# Altium schematic symbol library MCU_NXP_S08.SchLib: 189 symbols (part 2 of 4)
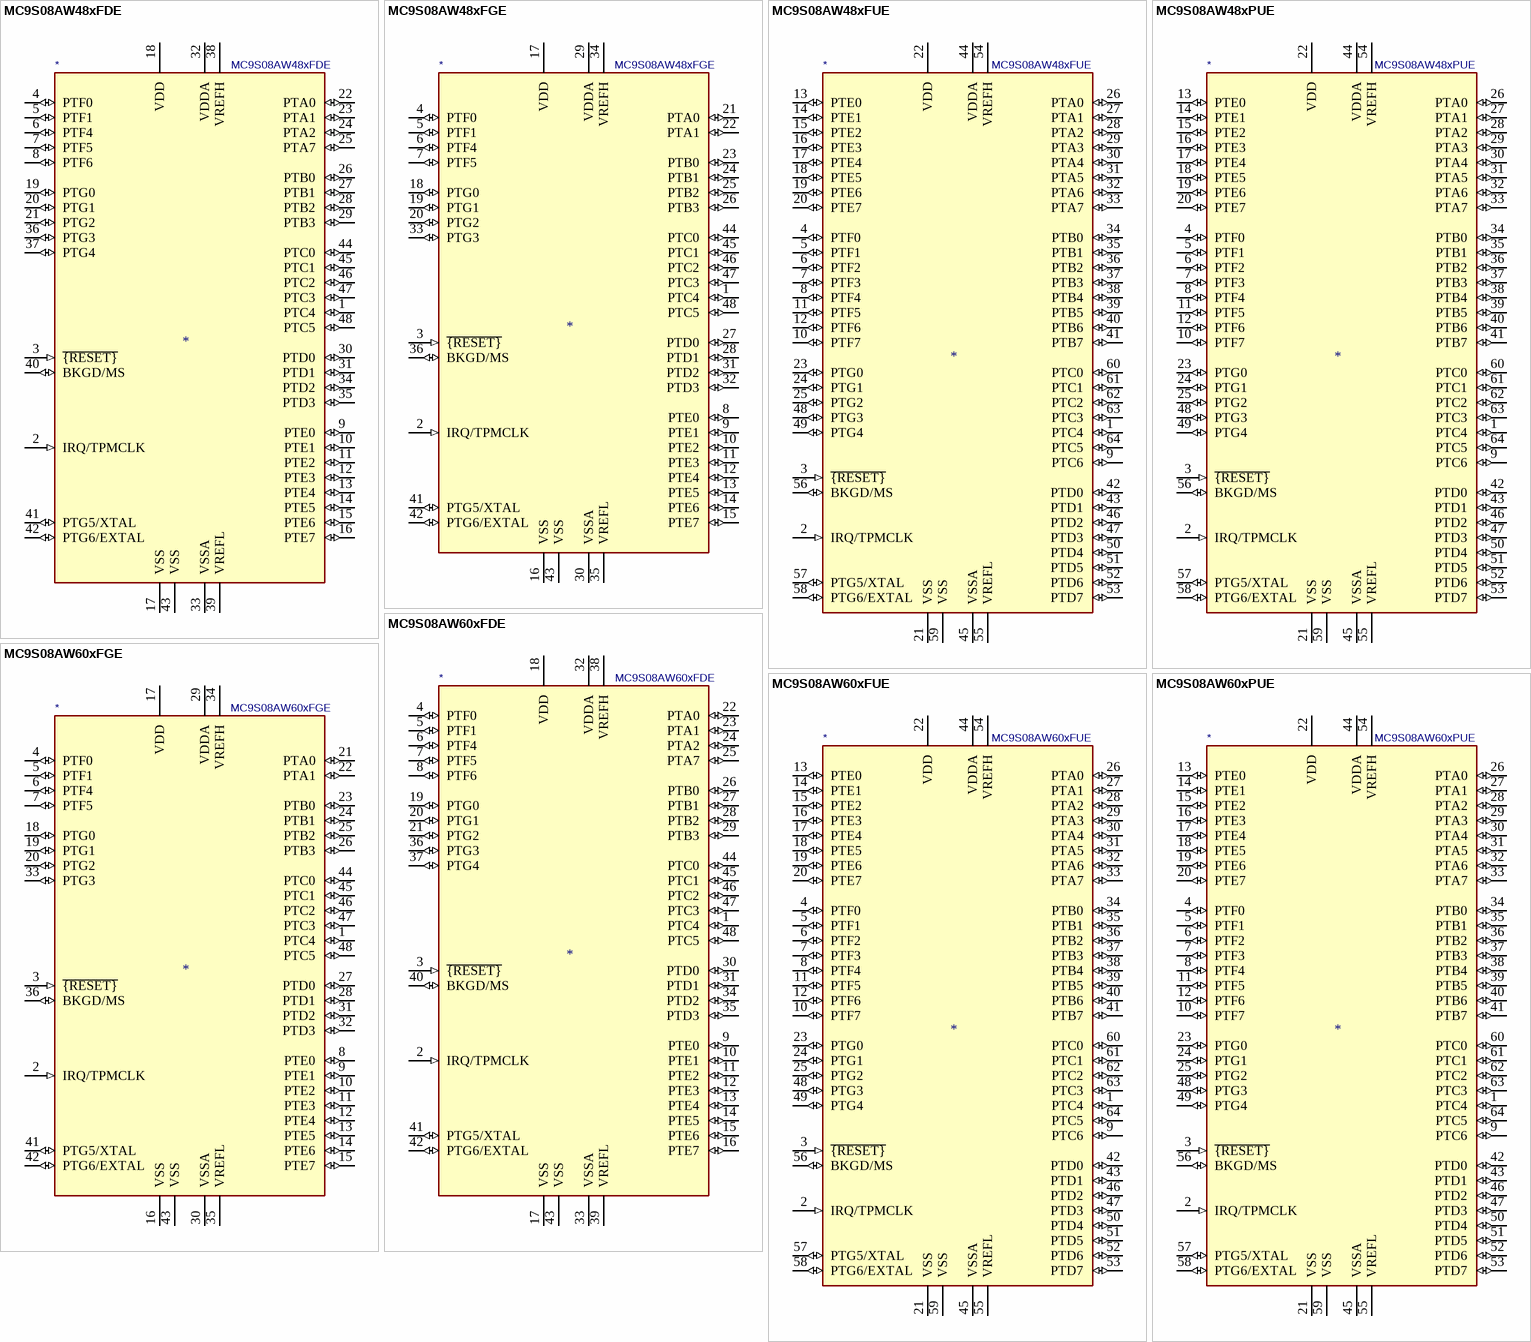
[diagram p20: symbols MC9S08AW48xFDE to MC9S08AW60xPUE]

## MC9S08AW48xFUE
designator *  value MC9S08AW48xFUE
ki_keywords: NXP S08 Microcontroller; ki_description: 8-bit General Purpose Microcontroller, S08 core, 48kB Flash, 2kB RAM, LQFP-64; ki_fp_filters: LQFP*14x14mm*P0.8mm*; Footprint: Package_QFP:LQFP-64_14x14mm_P0.8mm; Supplier: http://cache.nxp.com/files/microcontrollers/doc/data_sheet/MC9S08AW60.pdf
footprint LQFP-64_14x14mm_P0.8mm
pins: 1 PTC4 (io), 2 IRQ/TPMCLK (in), 3 ~{{RESET}} (in), 4 PTF0 (io), 5 PTF1 (io), 6 PTF2 (io), 7 PTF3 (io), 8 PTF4 (io), 9 PTC6 (io), 10 PTF7 (io), 11 PTF5 (io), 12 PTF6 (io), 13 PTE0 (io), 14 PTE1 (io), 15 PTE2 (io), 16 PTE3 (io), 17 PTE4 (io), 18 PTE5 (io), 19 PTE6 (io), 20 PTE7 (io), 21 VSS (power), 22 VDD (power), 23 PTG0 (io), 24 PTG1 (io), 25 PTG2 (io), 26 PTA0 (io), 27 PTA1 (io), 28 PTA2 (io), 29 PTA3 (io), 30 PTA4 (io), 31 PTA5 (io), 32 PTA6 (io), 33 PTA7 (io), 34 PTB0 (io), 35 PTB1 (io), 36 PTB2 (io), 37 PTB3 (io), 38 PTB4 (io), 39 PTB5 (io), 40 PTB6 (io), 41 PTB7 (io), 42 PTD0 (io), 43 PTD1 (io), 44 VDDA (power), 45 VSSA (power), 46 PTD2 (io), 47 PTD3 (io), 48 PTG3 (io), 49 PTG4 (io), 50 PTD4 (io), 51 PTD5 (io), 52 PTD6 (io), 53 PTD7 (io), 54 VREFH (power), 55 VREFL (power), 56 BKGD/MS (io), 57 PTG5/XTAL (io), 58 PTG6/EXTAL (io), 59 VSS (power), 60 PTC0 (io), 61 PTC1 (io), 62 PTC2 (io), 63 PTC3 (io), 64 PTC5 (io)

## MC9S08AW48xPUE
designator *  value MC9S08AW48xPUE
ki_keywords: NXP S08 Microcontroller; ki_description: 8-bit General Purpose Microcontroller, S08 core, 48kB Flash, 2kB RAM, LQFP-64; ki_fp_filters: LQFP*10x10mm*P0.5mm*; Footprint: Package_QFP:LQFP-64_10x10mm_P0.5mm; Supplier: http://cache.nxp.com/files/microcontrollers/doc/data_sheet/MC9S08AW60.pdf
footprint LQFP-64_10x10mm_P0.5mm
pins: 1 PTC4 (io), 2 IRQ/TPMCLK (in), 3 ~{{RESET}} (in), 4 PTF0 (io), 5 PTF1 (io), 6 PTF2 (io), 7 PTF3 (io), 8 PTF4 (io), 9 PTC6 (io), 10 PTF7 (io), 11 PTF5 (io), 12 PTF6 (io), 13 PTE0 (io), 14 PTE1 (io), 15 PTE2 (io), 16 PTE3 (io), 17 PTE4 (io), 18 PTE5 (io), 19 PTE6 (io), 20 PTE7 (io), 21 VSS (power), 22 VDD (power), 23 PTG0 (io), 24 PTG1 (io), 25 PTG2 (io), 26 PTA0 (io), 27 PTA1 (io), 28 PTA2 (io), 29 PTA3 (io), 30 PTA4 (io), 31 PTA5 (io), 32 PTA6 (io), 33 PTA7 (io), 34 PTB0 (io), 35 PTB1 (io), 36 PTB2 (io), 37 PTB3 (io), 38 PTB4 (io), 39 PTB5 (io), 40 PTB6 (io), 41 PTB7 (io), 42 PTD0 (io), 43 PTD1 (io), 44 VDDA (power), 45 VSSA (power), 46 PTD2 (io), 47 PTD3 (io), 48 PTG3 (io), 49 PTG4 (io), 50 PTD4 (io), 51 PTD5 (io), 52 PTD6 (io), 53 PTD7 (io), 54 VREFH (power), 55 VREFL (power), 56 BKGD/MS (io), 57 PTG5/XTAL (io), 58 PTG6/EXTAL (io), 59 VSS (power), 60 PTC0 (io), 61 PTC1 (io), 62 PTC2 (io), 63 PTC3 (io), 64 PTC5 (io)

## MC9S08AW60xFDE
designator *  value MC9S08AW60xFDE
ki_keywords: NXP S08 Microcontroller; ki_description: 8-bit General Purpose Microcontroller, S08 core, 60kB Flash, 2kB RAM, QFN-48; ki_fp_filters: QFN*7x7mm*P0.5mm*; Footprint: Package_DFN_QFN:QFN-48-1EP_7x7mm_P0.5mm_EP5.15x5.15mm; Supplier: http://cache.nxp.com/files/microcontrollers/doc/data_sheet/MC9S08AW60.pdf
footprint QFN-48-1EP_7x7mm_P0.5mm_EP5.15x5.15mm
pins: 1 PTC4 (io), 2 IRQ/TPMCLK (in), 3 ~{{RESET}} (in), 4 PTF0 (io), 5 PTF1 (io), 6 PTF4 (io), 7 PTF5 (io), 8 PTF6 (io), 9 PTE0 (io), 10 PTE1 (io), 11 PTE2 (io), 12 PTE3 (io), 13 PTE4 (io), 14 PTE5 (io), 15 PTE6 (io), 16 PTE7 (io), 17 VSS (power), 18 VDD (power), 19 PTG0 (io), 20 PTG1 (io), 21 PTG2 (io), 22 PTA0 (io), 23 PTA1 (io), 24 PTA2 (io), 25 PTA7 (io), 26 PTB0 (io), 27 PTB1 (io), 28 PTB2 (io), 29 PTB3 (io), 30 PTD0 (io), 31 PTD1 (io), 32 VDDA (power), 33 VSSA (power), 34 PTD2 (io), 35 PTD3 (io), 36 PTG3 (io), 37 PTG4 (io), 38 VREFH (power), 39 VREFL (power), 40 BKGD/MS (io), 41 PTG5/XTAL (io), 42 PTG6/EXTAL (io), 43 VSS (power), 44 PTC0 (io), 45 PTC1 (io), 46 PTC2 (io), 47 PTC3 (io), 48 PTC5 (io)

## MC9S08AW60xFGE
designator *  value MC9S08AW60xFGE
ki_keywords: NXP S08 Microcontroller; ki_description: 8-bit General Purpose Microcontroller, S08 core, 60kB Flash, 2kB RAM, LQFP-44; ki_fp_filters: LQFP*10x10mm*P0.8mm*; Footprint: Package_QFP:LQFP-44_10x10mm_P0.8mm; Supplier: http://cache.nxp.com/files/microcontrollers/doc/data_sheet/MC9S08AW60.pdf
footprint LQFP-44_10x10mm_P0.8mm
pins: 1 PTC4 (io), 2 IRQ/TPMCLK (in), 3 ~{{RESET}} (in), 4 PTF0 (io), 5 PTF1 (io), 6 PTF4 (io), 7 PTF5 (io), 8 PTE0 (io), 9 PTE1 (io), 10 PTE2 (io), 11 PTE3 (io), 12 PTE4 (io), 13 PTE5 (io), 14 PTE6 (io), 15 PTE7 (io), 16 VSS (power), 17 VDD (power), 18 PTG0 (io), 19 PTG1 (io), 20 PTG2 (io), 21 PTA0 (io), 22 PTA1 (io), 23 PTB0 (io), 24 PTB1 (io), 25 PTB2 (io), 26 PTB3 (io), 27 PTD0 (io), 28 PTD1 (io), 29 VDDA (power), 30 VSSA (power), 31 PTD2 (io), 32 PTD3 (io), 33 PTG3 (io), 34 VREFH (power), 35 VREFL (power), 36 BKGD/MS (io), 41 PTG5/XTAL (io), 42 PTG6/EXTAL (io), 43 VSS (power), 44 PTC0 (io), 45 PTC1 (io), 46 PTC2 (io), 47 PTC3 (io), 48 PTC5 (io)

## MC9S08AW60xFUE
designator *  value MC9S08AW60xFUE
ki_keywords: NXP S08 Microcontroller; ki_description: 8-bit General Purpose Microcontroller, S08 core, 60kB Flash, 2kB RAM, LQFP-64; ki_fp_filters: LQFP*14x14mm*P0.8mm*; Footprint: Package_QFP:LQFP-64_14x14mm_P0.8mm; Supplier: http://cache.nxp.com/files/microcontrollers/doc/data_sheet/MC9S08AW60.pdf
footprint LQFP-64_14x14mm_P0.8mm
pins: 1 PTC4 (io), 2 IRQ/TPMCLK (in), 3 ~{{RESET}} (in), 4 PTF0 (io), 5 PTF1 (io), 6 PTF2 (io), 7 PTF3 (io), 8 PTF4 (io), 9 PTC6 (io), 10 PTF7 (io), 11 PTF5 (io), 12 PTF6 (io), 13 PTE0 (io), 14 PTE1 (io), 15 PTE2 (io), 16 PTE3 (io), 17 PTE4 (io), 18 PTE5 (io), 19 PTE6 (io), 20 PTE7 (io), 21 VSS (power), 22 VDD (power), 23 PTG0 (io), 24 PTG1 (io), 25 PTG2 (io), 26 PTA0 (io), 27 PTA1 (io), 28 PTA2 (io), 29 PTA3 (io), 30 PTA4 (io), 31 PTA5 (io), 32 PTA6 (io), 33 PTA7 (io), 34 PTB0 (io), 35 PTB1 (io), 36 PTB2 (io), 37 PTB3 (io), 38 PTB4 (io), 39 PTB5 (io), 40 PTB6 (io), 41 PTB7 (io), 42 PTD0 (io), 43 PTD1 (io), 44 VDDA (power), 45 VSSA (power), 46 PTD2 (io), 47 PTD3 (io), 48 PTG3 (io), 49 PTG4 (io), 50 PTD4 (io), 51 PTD5 (io), 52 PTD6 (io), 53 PTD7 (io), 54 VREFH (power), 55 VREFL (power), 56 BKGD/MS (io), 57 PTG5/XTAL (io), 58 PTG6/EXTAL (io), 59 VSS (power), 60 PTC0 (io), 61 PTC1 (io), 62 PTC2 (io), 63 PTC3 (io), 64 PTC5 (io)

## MC9S08AW60xPUE
designator *  value MC9S08AW60xPUE
ki_keywords: NXP S08 Microcontroller; ki_description: 8-bit General Purpose Microcontroller, S08 core, 60kB Flash, 2kB RAM, LQFP-64; ki_fp_filters: LQFP*10x10mm*P0.5mm*; Footprint: Package_QFP:LQFP-64_10x10mm_P0.5mm; Supplier: http://cache.nxp.com/files/microcontrollers/doc/data_sheet/MC9S08AW60.pdf
footprint LQFP-64_10x10mm_P0.5mm
pins: 1 PTC4 (io), 2 IRQ/TPMCLK (in), 3 ~{{RESET}} (in), 4 PTF0 (io), 5 PTF1 (io), 6 PTF2 (io), 7 PTF3 (io), 8 PTF4 (io), 9 PTC6 (io), 10 PTF7 (io), 11 PTF5 (io), 12 PTF6 (io), 13 PTE0 (io), 14 PTE1 (io), 15 PTE2 (io), 16 PTE3 (io), 17 PTE4 (io), 18 PTE5 (io), 19 PTE6 (io), 20 PTE7 (io), 21 VSS (power), 22 VDD (power), 23 PTG0 (io), 24 PTG1 (io), 25 PTG2 (io), 26 PTA0 (io), 27 PTA1 (io), 28 PTA2 (io), 29 PTA3 (io), 30 PTA4 (io), 31 PTA5 (io), 32 PTA6 (io), 33 PTA7 (io), 34 PTB0 (io), 35 PTB1 (io), 36 PTB2 (io), 37 PTB3 (io), 38 PTB4 (io), 39 PTB5 (io), 40 PTB6 (io), 41 PTB7 (io), 42 PTD0 (io), 43 PTD1 (io), 44 VDDA (power), 45 VSSA (power), 46 PTD2 (io), 47 PTD3 (io), 48 PTG3 (io), 49 PTG4 (io), 50 PTD4 (io), 51 PTD5 (io), 52 PTD6 (io), 53 PTD7 (io), 54 VREFH (power), 55 VREFL (power), 56 BKGD/MS (io), 57 PTG5/XTAL (io), 58 PTG6/EXTAL (io), 59 VSS (power), 60 PTC0 (io), 61 PTC1 (io), 62 PTC2 (io), 63 PTC3 (io), 64 PTC5 (io)

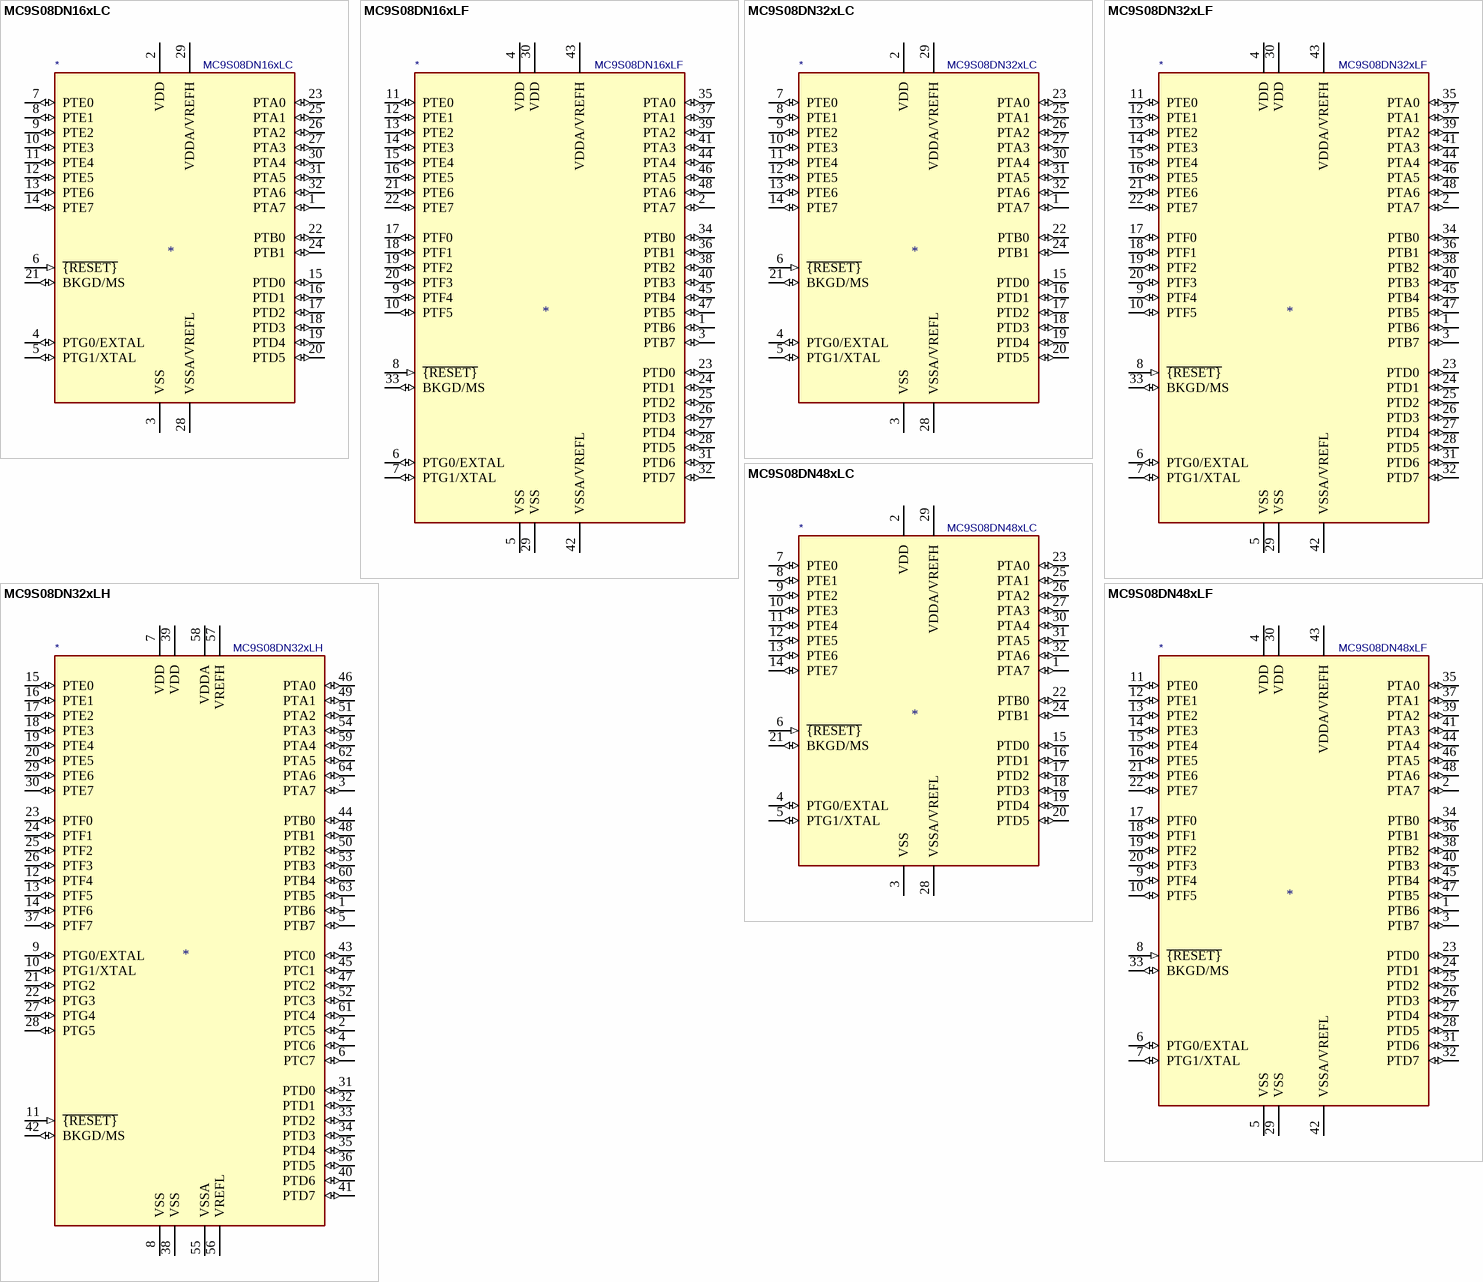
[diagram p6: symbols MC9S08DN16xLC to MC9S08DN48xLF]

## MC9S08DN16xLC
designator *  value MC9S08DN16xLC
ki_keywords: NXP S08 Microcontroller; ki_description: 8-bit Cost-Effective Microcontroller, S08 core, 16kB Flash, 1kB RAM, 1kB EEPROM, LQFP-32; ki_fp_filters: LQFP*7x7mm*P0.8mm*; Footprint: Package_QFP:LQFP-32_7x7mm_P0.8mm; Supplier: http://cache.nxp.com/files/microcontrollers/doc/data_sheet/MC9S08DZ60.pdf
footprint LQFP-32_7x7mm_P0.8mm
pins: 1 PTA7 (io), 2 VDD (power), 3 VSS (power), 4 PTG0/EXTAL (io), 5 PTG1/XTAL (io), 6 ~{{RESET}} (in), 7 PTE0 (io), 8 PTE1 (io), 9 PTE2 (io), 10 PTE3 (io), 11 PTE4 (io), 12 PTE5 (io), 13 PTE6 (io), 14 PTE7 (io), 15 PTD0 (io), 16 PTD1 (io), 17 PTD2 (io), 18 PTD3 (io), 19 PTD4 (io), 20 PTD5 (io), 21 BKGD/MS (io), 22 PTB0 (io), 23 PTA0 (io), 24 PTB1 (io), 25 PTA1 (io), 26 PTA2 (io), 27 PTA3 (io), 28 VSSA/VREFL (power), 29 VDDA/VREFH (power), 30 PTA4 (io), 31 PTA5 (io), 32 PTA6 (io)

## MC9S08DN16xLF
designator *  value MC9S08DN16xLF
ki_keywords: NXP S08 Microcontroller; ki_description: 8-bit Cost-Effective Microcontroller, S08 core, 16kB Flash, 1kB RAM, 1kB EEPROM, LQFP-48; ki_fp_filters: LQFP*7x7mm*P0.5mm*; Footprint: Package_QFP:LQFP-48_7x7mm_P0.5mm; Supplier: http://cache.nxp.com/files/microcontrollers/doc/data_sheet/MC9S08DZ60.pdf
footprint LQFP-48_7x7mm_P0.5mm
pins: 1 PTB6 (io), 2 PTA7 (io), 3 PTB7 (io), 4 VDD (power), 5 VSS (power), 6 PTG0/EXTAL (io), 7 PTG1/XTAL (io), 8 ~{{RESET}} (in), 9 PTF4 (io), 10 PTF5 (io), 11 PTE0 (io), 12 PTE1 (io), 13 PTE2 (io), 14 PTE3 (io), 15 PTE4 (io), 16 PTE5 (io), 17 PTF0 (io), 18 PTF1 (io), 19 PTF2 (io), 20 PTF3 (io), 21 PTE6 (io), 22 PTE7 (io), 23 PTD0 (io), 24 PTD1 (io), 25 PTD2 (io), 26 PTD3 (io), 27 PTD4 (io), 28 PTD5 (io), 29 VSS (power), 30 VDD (power), 31 PTD6 (io), 32 PTD7 (io), 33 BKGD/MS (io), 34 PTB0 (io), 35 PTA0 (io), 36 PTB1 (io), 37 PTA1 (io), 38 PTB2 (io), 39 PTA2 (io), 40 PTB3 (io), 41 PTA3 (io), 42 VSSA/VREFL (power), 43 VDDA/VREFH (power), 44 PTA4 (io), 45 PTB4 (io), 46 PTA5 (io), 47 PTB5 (io), 48 PTA6 (io)

## MC9S08DN32xLC
designator *  value MC9S08DN32xLC
ki_keywords: NXP S08 Microcontroller; ki_description: 8-bit Cost-Effective Microcontroller, S08 core, 32kB Flash, 1.5kB RAM, 1kB EEPROM, LQFP-32; ki_fp_filters: LQFP*7x7mm*P0.8mm*; Footprint: Package_QFP:LQFP-32_7x7mm_P0.8mm; Supplier: http://cache.nxp.com/files/microcontrollers/doc/data_sheet/MC9S08DZ60.pdf
footprint LQFP-32_7x7mm_P0.8mm
pins: 1 PTA7 (io), 2 VDD (power), 3 VSS (power), 4 PTG0/EXTAL (io), 5 PTG1/XTAL (io), 6 ~{{RESET}} (in), 7 PTE0 (io), 8 PTE1 (io), 9 PTE2 (io), 10 PTE3 (io), 11 PTE4 (io), 12 PTE5 (io), 13 PTE6 (io), 14 PTE7 (io), 15 PTD0 (io), 16 PTD1 (io), 17 PTD2 (io), 18 PTD3 (io), 19 PTD4 (io), 20 PTD5 (io), 21 BKGD/MS (io), 22 PTB0 (io), 23 PTA0 (io), 24 PTB1 (io), 25 PTA1 (io), 26 PTA2 (io), 27 PTA3 (io), 28 VSSA/VREFL (power), 29 VDDA/VREFH (power), 30 PTA4 (io), 31 PTA5 (io), 32 PTA6 (io)

## MC9S08DN32xLF
designator *  value MC9S08DN32xLF
ki_keywords: NXP S08 Microcontroller; ki_description: 8-bit Cost-Effective Microcontroller, S08 core, 32kB Flash, 1.5kB RAM, 1kB EEPROM, LQFP-48; ki_fp_filters: LQFP*7x7mm*P0.5mm*; Footprint: Package_QFP:LQFP-48_7x7mm_P0.5mm; Supplier: http://cache.nxp.com/files/microcontrollers/doc/data_sheet/MC9S08DZ60.pdf
footprint LQFP-48_7x7mm_P0.5mm
pins: 1 PTB6 (io), 2 PTA7 (io), 3 PTB7 (io), 4 VDD (power), 5 VSS (power), 6 PTG0/EXTAL (io), 7 PTG1/XTAL (io), 8 ~{{RESET}} (in), 9 PTF4 (io), 10 PTF5 (io), 11 PTE0 (io), 12 PTE1 (io), 13 PTE2 (io), 14 PTE3 (io), 15 PTE4 (io), 16 PTE5 (io), 17 PTF0 (io), 18 PTF1 (io), 19 PTF2 (io), 20 PTF3 (io), 21 PTE6 (io), 22 PTE7 (io), 23 PTD0 (io), 24 PTD1 (io), 25 PTD2 (io), 26 PTD3 (io), 27 PTD4 (io), 28 PTD5 (io), 29 VSS (power), 30 VDD (power), 31 PTD6 (io), 32 PTD7 (io), 33 BKGD/MS (io), 34 PTB0 (io), 35 PTA0 (io), 36 PTB1 (io), 37 PTA1 (io), 38 PTB2 (io), 39 PTA2 (io), 40 PTB3 (io), 41 PTA3 (io), 42 VSSA/VREFL (power), 43 VDDA/VREFH (power), 44 PTA4 (io), 45 PTB4 (io), 46 PTA5 (io), 47 PTB5 (io), 48 PTA6 (io)

## MC9S08DN32xLH
designator *  value MC9S08DN32xLH
ki_keywords: NXP S08 Microcontroller; ki_description: 8-bit Cost-Effective Microcontroller, S08 core, 32kB Flash, 1.5kB RAM, 1kB EEPROM, LQFP-64; ki_fp_filters: LQFP*10x10mm*P0.5mm*; Footprint: Package_QFP:LQFP-64_10x10mm_P0.5mm; Supplier: http://cache.nxp.com/files/microcontrollers/doc/data_sheet/MC9S08DN60.pdf
footprint LQFP-64_10x10mm_P0.5mm
pins: 1 PTB6 (io), 2 PTC5 (io), 3 PTA7 (io), 4 PTC6 (io), 5 PTB7 (io), 6 PTC7 (io), 7 VDD (power), 8 VSS (power), 9 PTG0/EXTAL (io), 10 PTG1/XTAL (io), 11 ~{{RESET}} (in), 12 PTF4 (io), 13 PTF5 (io), 14 PTF6 (io), 15 PTE0 (io), 16 PTE1 (io), 17 PTE2 (io), 18 PTE3 (io), 19 PTE4 (io), 20 PTE5 (io), 21 PTG2 (io), 22 PTG3 (io), 23 PTF0 (io), 24 PTF1 (io), 25 PTF2 (io), 26 PTF3 (io), 27 PTG4 (io), 28 PTG5 (io), 29 PTE6 (io), 30 PTE7 (io), 31 PTD0 (io), 32 PTD1 (io), 33 PTD2 (io), 34 PTD3 (io), 35 PTD4 (io), 36 PTD5 (io), 37 PTF7 (io), 38 VSS (power), 39 VDD (power), 40 PTD6 (io), 41 PTD7 (io), 42 BKGD/MS (io), 43 PTC0 (io), 44 PTB0 (io), 45 PTC1 (io), 46 PTA0 (io), 47 PTC2 (io), 48 PTB1 (io), 49 PTA1 (io), 50 PTB2 (io), 51 PTA2 (io), 52 PTC3 (io), 53 PTB3 (io), 54 PTA3 (io), 55 VSSA (power), 56 VREFL (power), 57 VREFH (power), 58 VDDA (power), 59 PTA4 (io), 60 PTB4 (io), 61 PTC4 (io), 62 PTA5 (io), 63 PTB5 (io), 64 PTA6 (io)

## MC9S08DN48xLC
designator *  value MC9S08DN48xLC
ki_keywords: NXP S08 Microcontroller; ki_description: 8-bit Cost-Effective Microcontroller, S08 core, 48kB Flash, 2kB RAM, 1.5kB EEPROM, LQFP-32; ki_fp_filters: LQFP*7x7mm*P0.8mm*; Footprint: Package_QFP:LQFP-32_7x7mm_P0.8mm; Supplier: http://cache.nxp.com/files/microcontrollers/doc/data_sheet/MC9S08DZ60.pdf
footprint LQFP-32_7x7mm_P0.8mm
pins: 1 PTA7 (io), 2 VDD (power), 3 VSS (power), 4 PTG0/EXTAL (io), 5 PTG1/XTAL (io), 6 ~{{RESET}} (in), 7 PTE0 (io), 8 PTE1 (io), 9 PTE2 (io), 10 PTE3 (io), 11 PTE4 (io), 12 PTE5 (io), 13 PTE6 (io), 14 PTE7 (io), 15 PTD0 (io), 16 PTD1 (io), 17 PTD2 (io), 18 PTD3 (io), 19 PTD4 (io), 20 PTD5 (io), 21 BKGD/MS (io), 22 PTB0 (io), 23 PTA0 (io), 24 PTB1 (io), 25 PTA1 (io), 26 PTA2 (io), 27 PTA3 (io), 28 VSSA/VREFL (power), 29 VDDA/VREFH (power), 30 PTA4 (io), 31 PTA5 (io), 32 PTA6 (io)

## MC9S08DN48xLF
designator *  value MC9S08DN48xLF
ki_keywords: NXP S08 Microcontroller; ki_description: 8-bit Cost-Effective Microcontroller, S08 core, 48kB Flash, 2kB RAM, 1.5kB EEPROM, LQFP-48; ki_fp_filters: LQFP*7x7mm*P0.5mm*; Footprint: Package_QFP:LQFP-48_7x7mm_P0.5mm; Supplier: http://cache.nxp.com/files/microcontrollers/doc/data_sheet/MC9S08DZ60.pdf
footprint LQFP-48_7x7mm_P0.5mm
pins: 1 PTB6 (io), 2 PTA7 (io), 3 PTB7 (io), 4 VDD (power), 5 VSS (power), 6 PTG0/EXTAL (io), 7 PTG1/XTAL (io), 8 ~{{RESET}} (in), 9 PTF4 (io), 10 PTF5 (io), 11 PTE0 (io), 12 PTE1 (io), 13 PTE2 (io), 14 PTE3 (io), 15 PTE4 (io), 16 PTE5 (io), 17 PTF0 (io), 18 PTF1 (io), 19 PTF2 (io), 20 PTF3 (io), 21 PTE6 (io), 22 PTE7 (io), 23 PTD0 (io), 24 PTD1 (io), 25 PTD2 (io), 26 PTD3 (io), 27 PTD4 (io), 28 PTD5 (io), 29 VSS (power), 30 VDD (power), 31 PTD6 (io), 32 PTD7 (io), 33 BKGD/MS (io), 34 PTB0 (io), 35 PTA0 (io), 36 PTB1 (io), 37 PTA1 (io), 38 PTB2 (io), 39 PTA2 (io), 40 PTB3 (io), 41 PTA3 (io), 42 VSSA/VREFL (power), 43 VDDA/VREFH (power), 44 PTA4 (io), 45 PTB4 (io), 46 PTA5 (io), 47 PTB5 (io), 48 PTA6 (io)

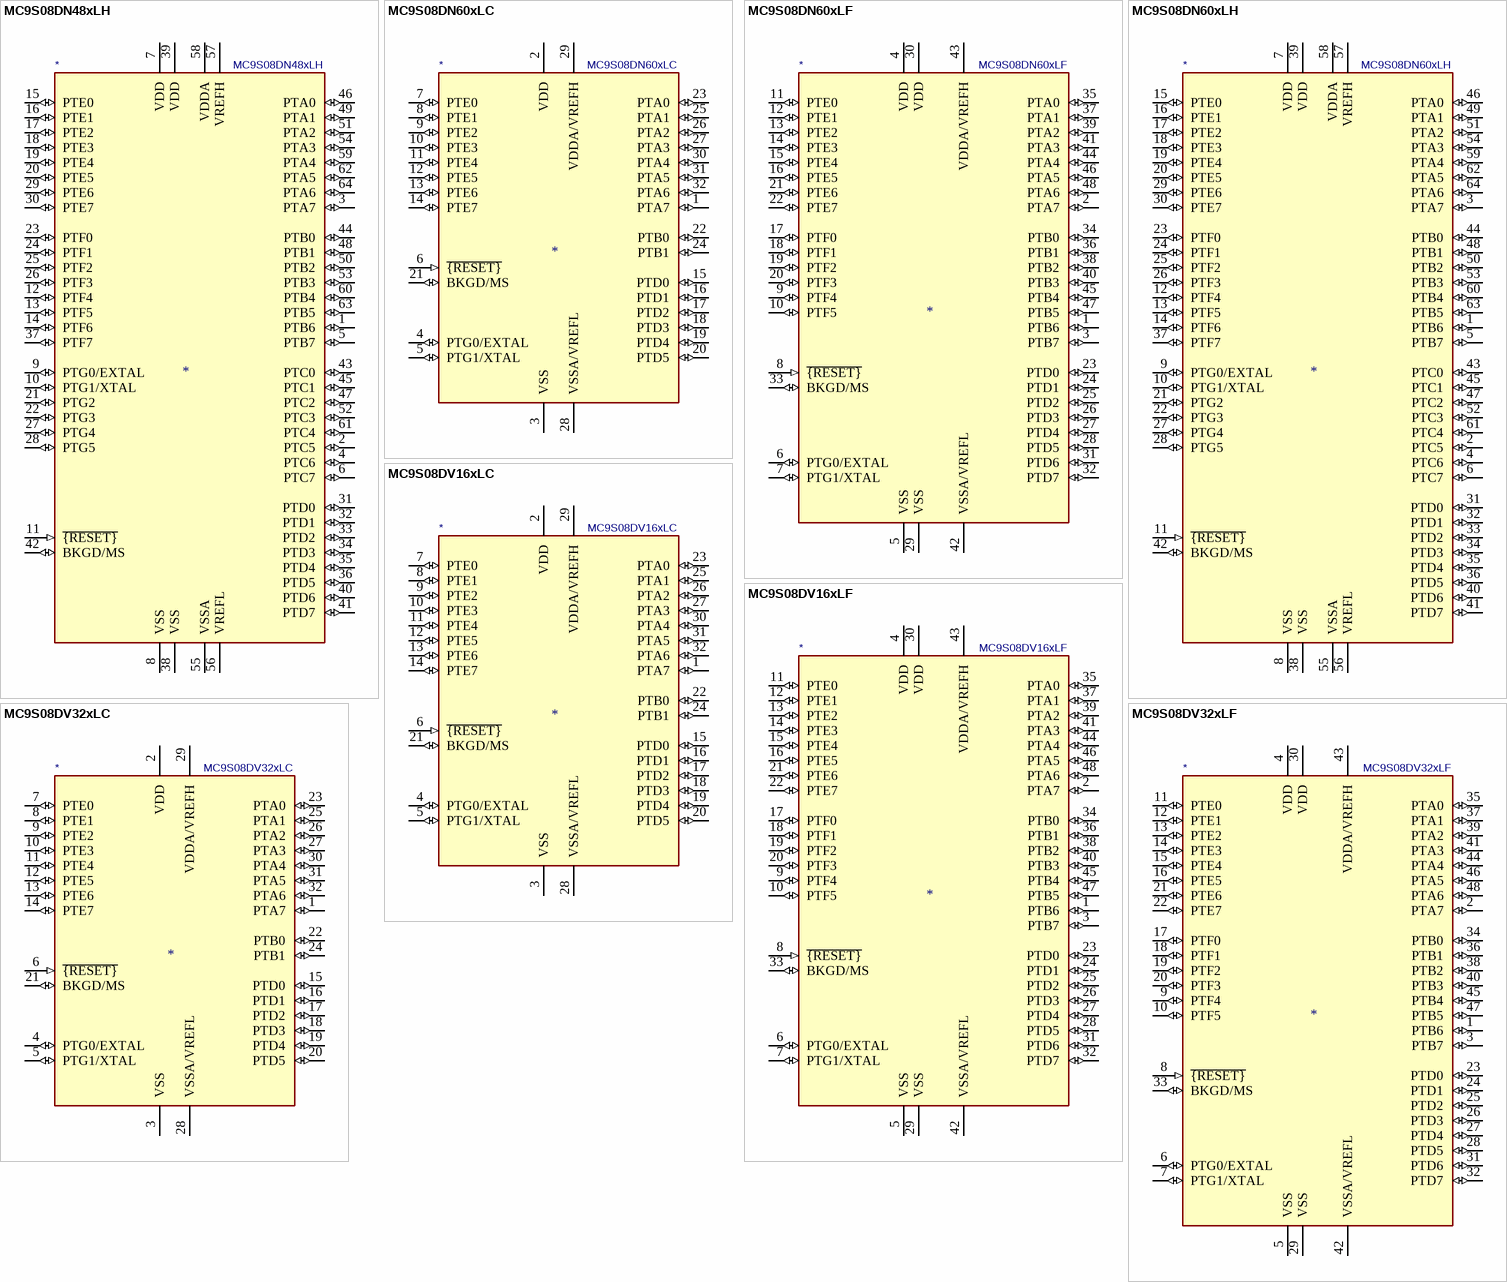
[diagram p7: symbols MC9S08DN48xLH to MC9S08DV32xLF]

## MC9S08DN48xLH
designator *  value MC9S08DN48xLH
ki_keywords: NXP S08 Microcontroller; ki_description: 8-bit Cost-Effective Microcontroller, S08 core, 48kB Flash, 2kB RAM, 1.5kB EEPROM, LQFP-64; ki_fp_filters: LQFP*10x10mm*P0.5mm*; Footprint: Package_QFP:LQFP-64_10x10mm_P0.5mm; Supplier: http://cache.nxp.com/files/microcontrollers/doc/data_sheet/MC9S08DN60.pdf
footprint LQFP-64_10x10mm_P0.5mm
pins: 1 PTB6 (io), 2 PTC5 (io), 3 PTA7 (io), 4 PTC6 (io), 5 PTB7 (io), 6 PTC7 (io), 7 VDD (power), 8 VSS (power), 9 PTG0/EXTAL (io), 10 PTG1/XTAL (io), 11 ~{{RESET}} (in), 12 PTF4 (io), 13 PTF5 (io), 14 PTF6 (io), 15 PTE0 (io), 16 PTE1 (io), 17 PTE2 (io), 18 PTE3 (io), 19 PTE4 (io), 20 PTE5 (io), 21 PTG2 (io), 22 PTG3 (io), 23 PTF0 (io), 24 PTF1 (io), 25 PTF2 (io), 26 PTF3 (io), 27 PTG4 (io), 28 PTG5 (io), 29 PTE6 (io), 30 PTE7 (io), 31 PTD0 (io), 32 PTD1 (io), 33 PTD2 (io), 34 PTD3 (io), 35 PTD4 (io), 36 PTD5 (io), 37 PTF7 (io), 38 VSS (power), 39 VDD (power), 40 PTD6 (io), 41 PTD7 (io), 42 BKGD/MS (io), 43 PTC0 (io), 44 PTB0 (io), 45 PTC1 (io), 46 PTA0 (io), 47 PTC2 (io), 48 PTB1 (io), 49 PTA1 (io), 50 PTB2 (io), 51 PTA2 (io), 52 PTC3 (io), 53 PTB3 (io), 54 PTA3 (io), 55 VSSA (power), 56 VREFL (power), 57 VREFH (power), 58 VDDA (power), 59 PTA4 (io), 60 PTB4 (io), 61 PTC4 (io), 62 PTA5 (io), 63 PTB5 (io), 64 PTA6 (io)

## MC9S08DN60xLC
designator *  value MC9S08DN60xLC
ki_keywords: NXP S08 Microcontroller; ki_description: 8-bit Cost-Effective Microcontroller, S08 core, 60kB Flash, 2kB RAM, 2kB EEPROM, LQFP-32; ki_fp_filters: LQFP*7x7mm*P0.8mm*; Footprint: Package_QFP:LQFP-32_7x7mm_P0.8mm; Supplier: http://cache.nxp.com/files/microcontrollers/doc/data_sheet/MC9S08DZ60.pdf
footprint LQFP-32_7x7mm_P0.8mm
pins: 1 PTA7 (io), 2 VDD (power), 3 VSS (power), 4 PTG0/EXTAL (io), 5 PTG1/XTAL (io), 6 ~{{RESET}} (in), 7 PTE0 (io), 8 PTE1 (io), 9 PTE2 (io), 10 PTE3 (io), 11 PTE4 (io), 12 PTE5 (io), 13 PTE6 (io), 14 PTE7 (io), 15 PTD0 (io), 16 PTD1 (io), 17 PTD2 (io), 18 PTD3 (io), 19 PTD4 (io), 20 PTD5 (io), 21 BKGD/MS (io), 22 PTB0 (io), 23 PTA0 (io), 24 PTB1 (io), 25 PTA1 (io), 26 PTA2 (io), 27 PTA3 (io), 28 VSSA/VREFL (power), 29 VDDA/VREFH (power), 30 PTA4 (io), 31 PTA5 (io), 32 PTA6 (io)

## MC9S08DN60xLF
designator *  value MC9S08DN60xLF
ki_keywords: NXP S08 Microcontroller; ki_description: 8-bit Cost-Effective Microcontroller, S08 core, 60kB Flash, 2kB RAM, 2kB EEPROM, LQFP-48; ki_fp_filters: LQFP*7x7mm*P0.5mm*; Footprint: Package_QFP:LQFP-48_7x7mm_P0.5mm; Supplier: http://cache.nxp.com/files/microcontrollers/doc/data_sheet/MC9S08DZ60.pdf
footprint LQFP-48_7x7mm_P0.5mm
pins: 1 PTB6 (io), 2 PTA7 (io), 3 PTB7 (io), 4 VDD (power), 5 VSS (power), 6 PTG0/EXTAL (io), 7 PTG1/XTAL (io), 8 ~{{RESET}} (in), 9 PTF4 (io), 10 PTF5 (io), 11 PTE0 (io), 12 PTE1 (io), 13 PTE2 (io), 14 PTE3 (io), 15 PTE4 (io), 16 PTE5 (io), 17 PTF0 (io), 18 PTF1 (io), 19 PTF2 (io), 20 PTF3 (io), 21 PTE6 (io), 22 PTE7 (io), 23 PTD0 (io), 24 PTD1 (io), 25 PTD2 (io), 26 PTD3 (io), 27 PTD4 (io), 28 PTD5 (io), 29 VSS (power), 30 VDD (power), 31 PTD6 (io), 32 PTD7 (io), 33 BKGD/MS (io), 34 PTB0 (io), 35 PTA0 (io), 36 PTB1 (io), 37 PTA1 (io), 38 PTB2 (io), 39 PTA2 (io), 40 PTB3 (io), 41 PTA3 (io), 42 VSSA/VREFL (power), 43 VDDA/VREFH (power), 44 PTA4 (io), 45 PTB4 (io), 46 PTA5 (io), 47 PTB5 (io), 48 PTA6 (io)

## MC9S08DN60xLH
designator *  value MC9S08DN60xLH
ki_keywords: NXP S08 Microcontroller; ki_description: 8-bit Cost-Effective Microcontroller, S08 core, 60kB Flash, 2kB RAM, 2kB EEPROM, LQFP-64; ki_fp_filters: LQFP*10x10mm*P0.5mm*; Footprint: Package_QFP:LQFP-64_10x10mm_P0.5mm; Supplier: http://cache.nxp.com/files/microcontrollers/doc/data_sheet/MC9S08DN60.pdf
footprint LQFP-64_10x10mm_P0.5mm
pins: 1 PTB6 (io), 2 PTC5 (io), 3 PTA7 (io), 4 PTC6 (io), 5 PTB7 (io), 6 PTC7 (io), 7 VDD (power), 8 VSS (power), 9 PTG0/EXTAL (io), 10 PTG1/XTAL (io), 11 ~{{RESET}} (in), 12 PTF4 (io), 13 PTF5 (io), 14 PTF6 (io), 15 PTE0 (io), 16 PTE1 (io), 17 PTE2 (io), 18 PTE3 (io), 19 PTE4 (io), 20 PTE5 (io), 21 PTG2 (io), 22 PTG3 (io), 23 PTF0 (io), 24 PTF1 (io), 25 PTF2 (io), 26 PTF3 (io), 27 PTG4 (io), 28 PTG5 (io), 29 PTE6 (io), 30 PTE7 (io), 31 PTD0 (io), 32 PTD1 (io), 33 PTD2 (io), 34 PTD3 (io), 35 PTD4 (io), 36 PTD5 (io), 37 PTF7 (io), 38 VSS (power), 39 VDD (power), 40 PTD6 (io), 41 PTD7 (io), 42 BKGD/MS (io), 43 PTC0 (io), 44 PTB0 (io), 45 PTC1 (io), 46 PTA0 (io), 47 PTC2 (io), 48 PTB1 (io), 49 PTA1 (io), 50 PTB2 (io), 51 PTA2 (io), 52 PTC3 (io), 53 PTB3 (io), 54 PTA3 (io), 55 VSSA (power), 56 VREFL (power), 57 VREFH (power), 58 VDDA (power), 59 PTA4 (io), 60 PTB4 (io), 61 PTC4 (io), 62 PTA5 (io), 63 PTB5 (io), 64 PTA6 (io)

## MC9S08DV16xLC
designator *  value MC9S08DV16xLC
ki_keywords: NXP S08 Microcontroller; ki_description: 8-bit Cost-Effective Microcontroller, S08 core, 16kB Flash, 1kB RAM, 512B EEPROM, LQFP-32; ki_fp_filters: LQFP*7x7mm*P0.8mm*; Footprint: Package_QFP:LQFP-32_7x7mm_P0.8mm; Supplier: http://cache.nxp.com/files/microcontrollers/doc/data_sheet/MC9S08DZ60.pdf
footprint LQFP-32_7x7mm_P0.8mm
pins: 1 PTA7 (io), 2 VDD (power), 3 VSS (power), 4 PTG0/EXTAL (io), 5 PTG1/XTAL (io), 6 ~{{RESET}} (in), 7 PTE0 (io), 8 PTE1 (io), 9 PTE2 (io), 10 PTE3 (io), 11 PTE4 (io), 12 PTE5 (io), 13 PTE6 (io), 14 PTE7 (io), 15 PTD0 (io), 16 PTD1 (io), 17 PTD2 (io), 18 PTD3 (io), 19 PTD4 (io), 20 PTD5 (io), 21 BKGD/MS (io), 22 PTB0 (io), 23 PTA0 (io), 24 PTB1 (io), 25 PTA1 (io), 26 PTA2 (io), 27 PTA3 (io), 28 VSSA/VREFL (power), 29 VDDA/VREFH (power), 30 PTA4 (io), 31 PTA5 (io), 32 PTA6 (io)

## MC9S08DV16xLF
designator *  value MC9S08DV16xLF
ki_keywords: NXP S08 Microcontroller; ki_description: 8-bit Cost-Effective Microcontroller, S08 core, 16kB Flash, 1kB RAM, 512B EEPROM, LQFP-48; ki_fp_filters: LQFP*7x7mm*P0.5mm*; Footprint: Package_QFP:LQFP-48_7x7mm_P0.5mm; Supplier: http://cache.nxp.com/files/microcontrollers/doc/data_sheet/MC9S08DZ60.pdf
footprint LQFP-48_7x7mm_P0.5mm
pins: 1 PTB6 (io), 2 PTA7 (io), 3 PTB7 (io), 4 VDD (power), 5 VSS (power), 6 PTG0/EXTAL (io), 7 PTG1/XTAL (io), 8 ~{{RESET}} (in), 9 PTF4 (io), 10 PTF5 (io), 11 PTE0 (io), 12 PTE1 (io), 13 PTE2 (io), 14 PTE3 (io), 15 PTE4 (io), 16 PTE5 (io), 17 PTF0 (io), 18 PTF1 (io), 19 PTF2 (io), 20 PTF3 (io), 21 PTE6 (io), 22 PTE7 (io), 23 PTD0 (io), 24 PTD1 (io), 25 PTD2 (io), 26 PTD3 (io), 27 PTD4 (io), 28 PTD5 (io), 29 VSS (power), 30 VDD (power), 31 PTD6 (io), 32 PTD7 (io), 33 BKGD/MS (io), 34 PTB0 (io), 35 PTA0 (io), 36 PTB1 (io), 37 PTA1 (io), 38 PTB2 (io), 39 PTA2 (io), 40 PTB3 (io), 41 PTA3 (io), 42 VSSA/VREFL (power), 43 VDDA/VREFH (power), 44 PTA4 (io), 45 PTB4 (io), 46 PTA5 (io), 47 PTB5 (io), 48 PTA6 (io)

## MC9S08DV32xLC
designator *  value MC9S08DV32xLC
ki_keywords: NXP S08 Microcontroller; ki_description: 8-bit Cost-Effective Microcontroller, S08 core, 32kB Flash, 1kB RAM, LQFP-32; ki_fp_filters: LQFP*7x7mm*P0.8mm*; Footprint: Package_QFP:LQFP-32_7x7mm_P0.8mm; Supplier: http://cache.nxp.com/files/microcontrollers/doc/data_sheet/MC9S08DZ60.pdf
footprint LQFP-32_7x7mm_P0.8mm
pins: 1 PTA7 (io), 2 VDD (power), 3 VSS (power), 4 PTG0/EXTAL (io), 5 PTG1/XTAL (io), 6 ~{{RESET}} (in), 7 PTE0 (io), 8 PTE1 (io), 9 PTE2 (io), 10 PTE3 (io), 11 PTE4 (io), 12 PTE5 (io), 13 PTE6 (io), 14 PTE7 (io), 15 PTD0 (io), 16 PTD1 (io), 17 PTD2 (io), 18 PTD3 (io), 19 PTD4 (io), 20 PTD5 (io), 21 BKGD/MS (io), 22 PTB0 (io), 23 PTA0 (io), 24 PTB1 (io), 25 PTA1 (io), 26 PTA2 (io), 27 PTA3 (io), 28 VSSA/VREFL (power), 29 VDDA/VREFH (power), 30 PTA4 (io), 31 PTA5 (io), 32 PTA6 (io)

## MC9S08DV32xLF
designator *  value MC9S08DV32xLF
ki_keywords: NXP S08 Microcontroller; ki_description: 8-bit Cost-Effective Microcontroller, S08 core, 32kB Flash, 1kB RAM, LQFP-48; ki_fp_filters: LQFP*7x7mm*P0.5mm*; Footprint: Package_QFP:LQFP-48_7x7mm_P0.5mm; Supplier: http://cache.nxp.com/files/microcontrollers/doc/data_sheet/MC9S08DZ60.pdf
footprint LQFP-48_7x7mm_P0.5mm
pins: 1 PTB6 (io), 2 PTA7 (io), 3 PTB7 (io), 4 VDD (power), 5 VSS (power), 6 PTG0/EXTAL (io), 7 PTG1/XTAL (io), 8 ~{{RESET}} (in), 9 PTF4 (io), 10 PTF5 (io), 11 PTE0 (io), 12 PTE1 (io), 13 PTE2 (io), 14 PTE3 (io), 15 PTE4 (io), 16 PTE5 (io), 17 PTF0 (io), 18 PTF1 (io), 19 PTF2 (io), 20 PTF3 (io), 21 PTE6 (io), 22 PTE7 (io), 23 PTD0 (io), 24 PTD1 (io), 25 PTD2 (io), 26 PTD3 (io), 27 PTD4 (io), 28 PTD5 (io), 29 VSS (power), 30 VDD (power), 31 PTD6 (io), 32 PTD7 (io), 33 BKGD/MS (io), 34 PTB0 (io), 35 PTA0 (io), 36 PTB1 (io), 37 PTA1 (io), 38 PTB2 (io), 39 PTA2 (io), 40 PTB3 (io), 41 PTA3 (io), 42 VSSA/VREFL (power), 43 VDDA/VREFH (power), 44 PTA4 (io), 45 PTB4 (io), 46 PTA5 (io), 47 PTB5 (io), 48 PTA6 (io)

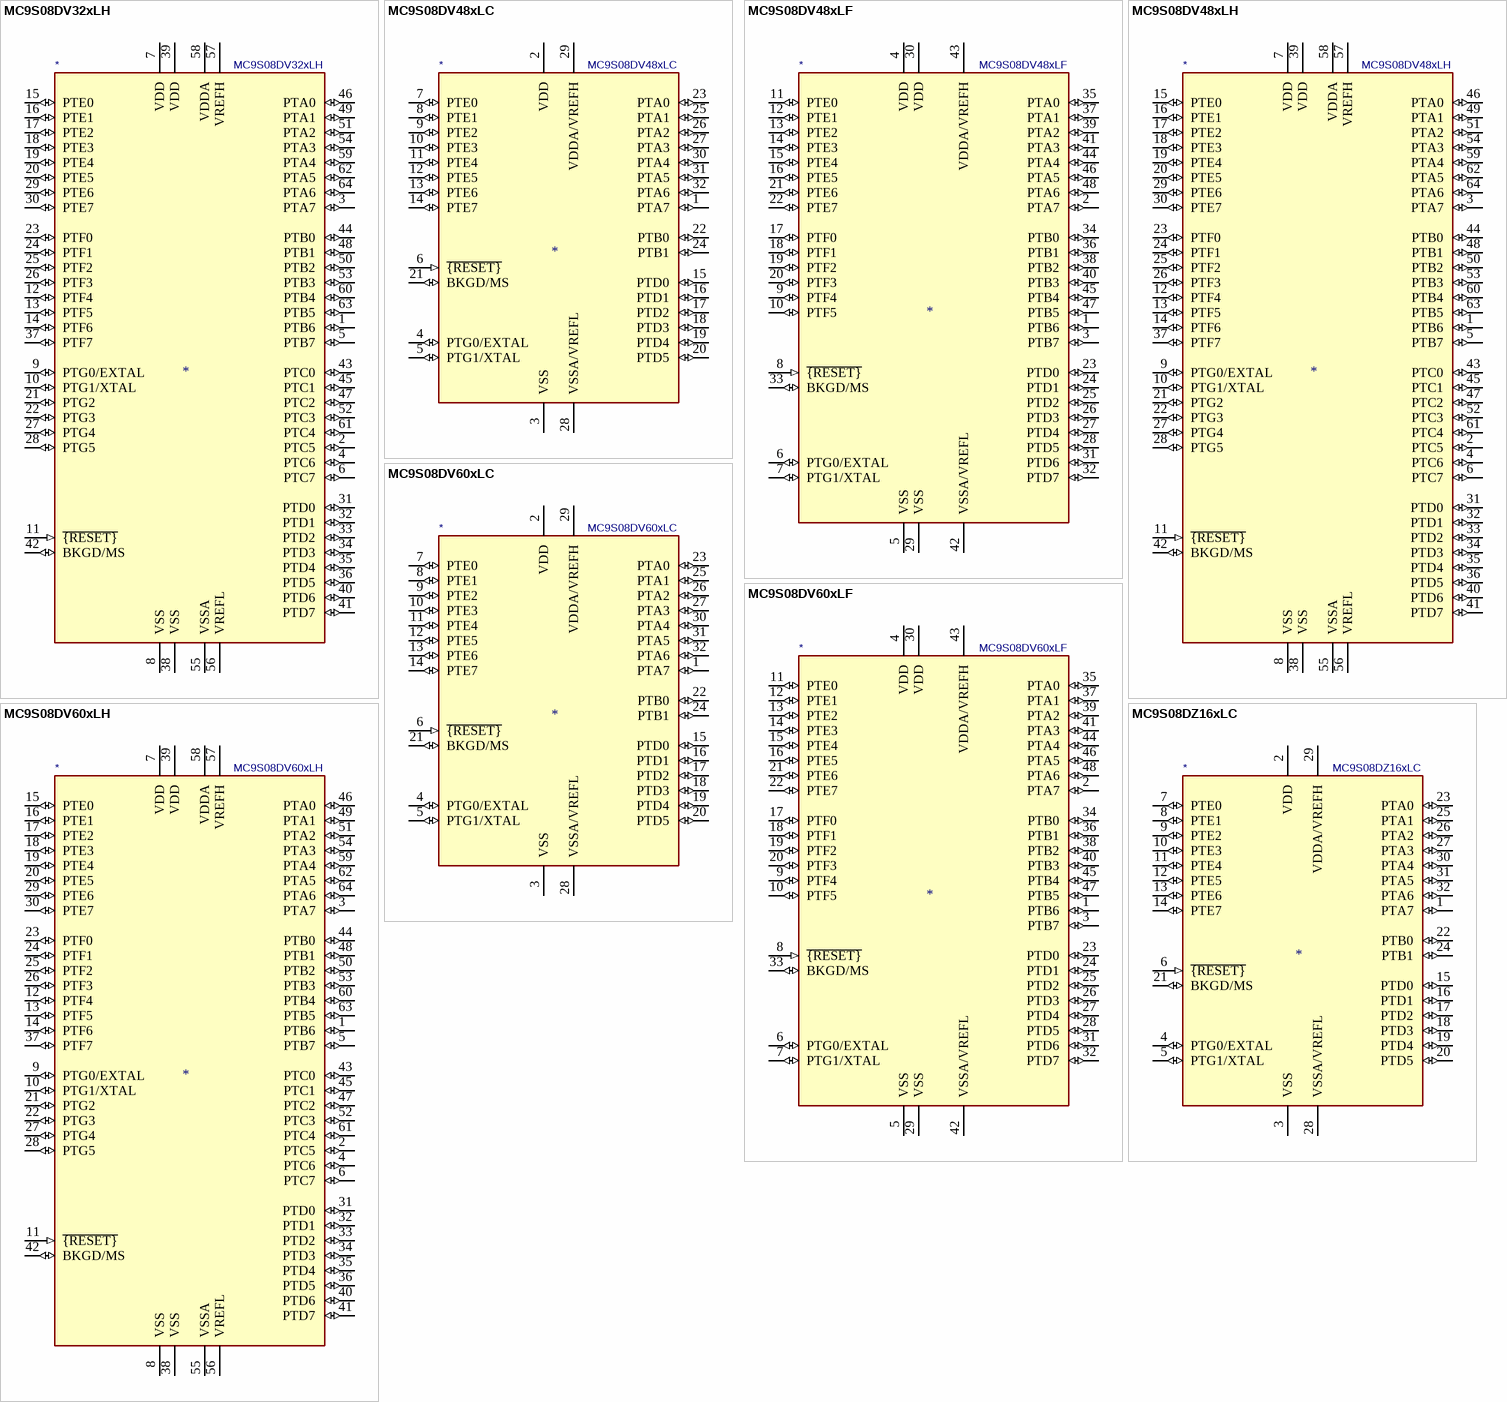
[diagram p8: symbols MC9S08DV32xLH to MC9S08DZ16xLC]

## MC9S08DV32xLH
designator *  value MC9S08DV32xLH
ki_keywords: NXP S08 Microcontroller; ki_description: 8-bit Cost-Effective Microcontroller, S08 core, 32kB Flash, 1kB RAM, LQFP-64; ki_fp_filters: LQFP*10x10mm*P0.5mm*; Footprint: Package_QFP:LQFP-64_10x10mm_P0.5mm; Supplier: http://cache.nxp.com/files/microcontrollers/doc/data_sheet/MC9S08DV60.pdf
footprint LQFP-64_10x10mm_P0.5mm
pins: 1 PTB6 (io), 2 PTC5 (io), 3 PTA7 (io), 4 PTC6 (io), 5 PTB7 (io), 6 PTC7 (io), 7 VDD (power), 8 VSS (power), 9 PTG0/EXTAL (io), 10 PTG1/XTAL (io), 11 ~{{RESET}} (in), 12 PTF4 (io), 13 PTF5 (io), 14 PTF6 (io), 15 PTE0 (io), 16 PTE1 (io), 17 PTE2 (io), 18 PTE3 (io), 19 PTE4 (io), 20 PTE5 (io), 21 PTG2 (io), 22 PTG3 (io), 23 PTF0 (io), 24 PTF1 (io), 25 PTF2 (io), 26 PTF3 (io), 27 PTG4 (io), 28 PTG5 (io), 29 PTE6 (io), 30 PTE7 (io), 31 PTD0 (io), 32 PTD1 (io), 33 PTD2 (io), 34 PTD3 (io), 35 PTD4 (io), 36 PTD5 (io), 37 PTF7 (io), 38 VSS (power), 39 VDD (power), 40 PTD6 (io), 41 PTD7 (io), 42 BKGD/MS (io), 43 PTC0 (io), 44 PTB0 (io), 45 PTC1 (io), 46 PTA0 (io), 47 PTC2 (io), 48 PTB1 (io), 49 PTA1 (io), 50 PTB2 (io), 51 PTA2 (io), 52 PTC3 (io), 53 PTB3 (io), 54 PTA3 (io), 55 VSSA (power), 56 VREFL (power), 57 VREFH (power), 58 VDDA (power), 59 PTA4 (io), 60 PTB4 (io), 61 PTC4 (io), 62 PTA5 (io), 63 PTB5 (io), 64 PTA6 (io)

## MC9S08DV48xLC
designator *  value MC9S08DV48xLC
ki_keywords: NXP S08 Microcontroller; ki_description: 8-bit Cost-Effective Microcontroller, S08 core, 48kB Flash, 3kB RAM, LQFP-32; ki_fp_filters: LQFP*7x7mm*P0.8mm*; Footprint: Package_QFP:LQFP-32_7x7mm_P0.8mm; Supplier: http://cache.nxp.com/files/microcontrollers/doc/data_sheet/MC9S08DZ60.pdf
footprint LQFP-32_7x7mm_P0.8mm
pins: 1 PTA7 (io), 2 VDD (power), 3 VSS (power), 4 PTG0/EXTAL (io), 5 PTG1/XTAL (io), 6 ~{{RESET}} (in), 7 PTE0 (io), 8 PTE1 (io), 9 PTE2 (io), 10 PTE3 (io), 11 PTE4 (io), 12 PTE5 (io), 13 PTE6 (io), 14 PTE7 (io), 15 PTD0 (io), 16 PTD1 (io), 17 PTD2 (io), 18 PTD3 (io), 19 PTD4 (io), 20 PTD5 (io), 21 BKGD/MS (io), 22 PTB0 (io), 23 PTA0 (io), 24 PTB1 (io), 25 PTA1 (io), 26 PTA2 (io), 27 PTA3 (io), 28 VSSA/VREFL (power), 29 VDDA/VREFH (power), 30 PTA4 (io), 31 PTA5 (io), 32 PTA6 (io)

## MC9S08DV48xLF
designator *  value MC9S08DV48xLF
ki_keywords: NXP S08 Microcontroller; ki_description: 8-bit Cost-Effective Microcontroller, S08 core, 48kB Flash, 3kB RAM, LQFP-48; ki_fp_filters: LQFP*7x7mm*P0.5mm*; Footprint: Package_QFP:LQFP-48_7x7mm_P0.5mm; Supplier: http://cache.nxp.com/files/microcontrollers/doc/data_sheet/MC9S08DZ60.pdf
footprint LQFP-48_7x7mm_P0.5mm
pins: 1 PTB6 (io), 2 PTA7 (io), 3 PTB7 (io), 4 VDD (power), 5 VSS (power), 6 PTG0/EXTAL (io), 7 PTG1/XTAL (io), 8 ~{{RESET}} (in), 9 PTF4 (io), 10 PTF5 (io), 11 PTE0 (io), 12 PTE1 (io), 13 PTE2 (io), 14 PTE3 (io), 15 PTE4 (io), 16 PTE5 (io), 17 PTF0 (io), 18 PTF1 (io), 19 PTF2 (io), 20 PTF3 (io), 21 PTE6 (io), 22 PTE7 (io), 23 PTD0 (io), 24 PTD1 (io), 25 PTD2 (io), 26 PTD3 (io), 27 PTD4 (io), 28 PTD5 (io), 29 VSS (power), 30 VDD (power), 31 PTD6 (io), 32 PTD7 (io), 33 BKGD/MS (io), 34 PTB0 (io), 35 PTA0 (io), 36 PTB1 (io), 37 PTA1 (io), 38 PTB2 (io), 39 PTA2 (io), 40 PTB3 (io), 41 PTA3 (io), 42 VSSA/VREFL (power), 43 VDDA/VREFH (power), 44 PTA4 (io), 45 PTB4 (io), 46 PTA5 (io), 47 PTB5 (io), 48 PTA6 (io)

## MC9S08DV48xLH
designator *  value MC9S08DV48xLH
ki_keywords: NXP S08 Microcontroller; ki_description: 8-bit Cost-Effective Microcontroller, S08 core, 48kB Flash, 3kB RAM, LQFP-64; ki_fp_filters: LQFP*10x10mm*P0.5mm*; Footprint: Package_QFP:LQFP-64_10x10mm_P0.5mm; Supplier: http://cache.nxp.com/files/microcontrollers/doc/data_sheet/MC9S08DV60.pdf
footprint LQFP-64_10x10mm_P0.5mm
pins: 1 PTB6 (io), 2 PTC5 (io), 3 PTA7 (io), 4 PTC6 (io), 5 PTB7 (io), 6 PTC7 (io), 7 VDD (power), 8 VSS (power), 9 PTG0/EXTAL (io), 10 PTG1/XTAL (io), 11 ~{{RESET}} (in), 12 PTF4 (io), 13 PTF5 (io), 14 PTF6 (io), 15 PTE0 (io), 16 PTE1 (io), 17 PTE2 (io), 18 PTE3 (io), 19 PTE4 (io), 20 PTE5 (io), 21 PTG2 (io), 22 PTG3 (io), 23 PTF0 (io), 24 PTF1 (io), 25 PTF2 (io), 26 PTF3 (io), 27 PTG4 (io), 28 PTG5 (io), 29 PTE6 (io), 30 PTE7 (io), 31 PTD0 (io), 32 PTD1 (io), 33 PTD2 (io), 34 PTD3 (io), 35 PTD4 (io), 36 PTD5 (io), 37 PTF7 (io), 38 VSS (power), 39 VDD (power), 40 PTD6 (io), 41 PTD7 (io), 42 BKGD/MS (io), 43 PTC0 (io), 44 PTB0 (io), 45 PTC1 (io), 46 PTA0 (io), 47 PTC2 (io), 48 PTB1 (io), 49 PTA1 (io), 50 PTB2 (io), 51 PTA2 (io), 52 PTC3 (io), 53 PTB3 (io), 54 PTA3 (io), 55 VSSA (power), 56 VREFL (power), 57 VREFH (power), 58 VDDA (power), 59 PTA4 (io), 60 PTB4 (io), 61 PTC4 (io), 62 PTA5 (io), 63 PTB5 (io), 64 PTA6 (io)

## MC9S08DV60xLC
designator *  value MC9S08DV60xLC
ki_keywords: NXP S08 Microcontroller; ki_description: 8-bit Cost-Effective Microcontroller, S08 core, 60kB Flash, 3kB RAM, LQFP-32; ki_fp_filters: LQFP*7x7mm*P0.8mm*; Footprint: Package_QFP:LQFP-32_7x7mm_P0.8mm; Supplier: http://cache.nxp.com/files/microcontrollers/doc/data_sheet/MC9S08DZ60.pdf
footprint LQFP-32_7x7mm_P0.8mm
pins: 1 PTA7 (io), 2 VDD (power), 3 VSS (power), 4 PTG0/EXTAL (io), 5 PTG1/XTAL (io), 6 ~{{RESET}} (in), 7 PTE0 (io), 8 PTE1 (io), 9 PTE2 (io), 10 PTE3 (io), 11 PTE4 (io), 12 PTE5 (io), 13 PTE6 (io), 14 PTE7 (io), 15 PTD0 (io), 16 PTD1 (io), 17 PTD2 (io), 18 PTD3 (io), 19 PTD4 (io), 20 PTD5 (io), 21 BKGD/MS (io), 22 PTB0 (io), 23 PTA0 (io), 24 PTB1 (io), 25 PTA1 (io), 26 PTA2 (io), 27 PTA3 (io), 28 VSSA/VREFL (power), 29 VDDA/VREFH (power), 30 PTA4 (io), 31 PTA5 (io), 32 PTA6 (io)

## MC9S08DV60xLF
designator *  value MC9S08DV60xLF
ki_keywords: NXP S08 Microcontroller; ki_description: 8-bit Cost-Effective Microcontroller, S08 core, 60kB Flash, 3kB RAM, LQFP-48; ki_fp_filters: LQFP*7x7mm*P0.5mm*; Footprint: Package_QFP:LQFP-48_7x7mm_P0.5mm; Supplier: http://cache.nxp.com/files/microcontrollers/doc/data_sheet/MC9S08DZ60.pdf
footprint LQFP-48_7x7mm_P0.5mm
pins: 1 PTB6 (io), 2 PTA7 (io), 3 PTB7 (io), 4 VDD (power), 5 VSS (power), 6 PTG0/EXTAL (io), 7 PTG1/XTAL (io), 8 ~{{RESET}} (in), 9 PTF4 (io), 10 PTF5 (io), 11 PTE0 (io), 12 PTE1 (io), 13 PTE2 (io), 14 PTE3 (io), 15 PTE4 (io), 16 PTE5 (io), 17 PTF0 (io), 18 PTF1 (io), 19 PTF2 (io), 20 PTF3 (io), 21 PTE6 (io), 22 PTE7 (io), 23 PTD0 (io), 24 PTD1 (io), 25 PTD2 (io), 26 PTD3 (io), 27 PTD4 (io), 28 PTD5 (io), 29 VSS (power), 30 VDD (power), 31 PTD6 (io), 32 PTD7 (io), 33 BKGD/MS (io), 34 PTB0 (io), 35 PTA0 (io), 36 PTB1 (io), 37 PTA1 (io), 38 PTB2 (io), 39 PTA2 (io), 40 PTB3 (io), 41 PTA3 (io), 42 VSSA/VREFL (power), 43 VDDA/VREFH (power), 44 PTA4 (io), 45 PTB4 (io), 46 PTA5 (io), 47 PTB5 (io), 48 PTA6 (io)

## MC9S08DV60xLH
designator *  value MC9S08DV60xLH
ki_keywords: NXP S08 Microcontroller; ki_description: 8-bit Cost-Effective Microcontroller, S08 core, 60kB Flash, 3kB RAM, LQFP-64; ki_fp_filters: LQFP*10x10mm*P0.5mm*; Footprint: Package_QFP:LQFP-64_10x10mm_P0.5mm; Supplier: http://cache.nxp.com/files/microcontrollers/doc/data_sheet/MC9S08DV60.pdf
footprint LQFP-64_10x10mm_P0.5mm
pins: 1 PTB6 (io), 2 PTC5 (io), 3 PTA7 (io), 4 PTC6 (io), 5 PTB7 (io), 6 PTC7 (io), 7 VDD (power), 8 VSS (power), 9 PTG0/EXTAL (io), 10 PTG1/XTAL (io), 11 ~{{RESET}} (in), 12 PTF4 (io), 13 PTF5 (io), 14 PTF6 (io), 15 PTE0 (io), 16 PTE1 (io), 17 PTE2 (io), 18 PTE3 (io), 19 PTE4 (io), 20 PTE5 (io), 21 PTG2 (io), 22 PTG3 (io), 23 PTF0 (io), 24 PTF1 (io), 25 PTF2 (io), 26 PTF3 (io), 27 PTG4 (io), 28 PTG5 (io), 29 PTE6 (io), 30 PTE7 (io), 31 PTD0 (io), 32 PTD1 (io), 33 PTD2 (io), 34 PTD3 (io), 35 PTD4 (io), 36 PTD5 (io), 37 PTF7 (io), 38 VSS (power), 39 VDD (power), 40 PTD6 (io), 41 PTD7 (io), 42 BKGD/MS (io), 43 PTC0 (io), 44 PTB0 (io), 45 PTC1 (io), 46 PTA0 (io), 47 PTC2 (io), 48 PTB1 (io), 49 PTA1 (io), 50 PTB2 (io), 51 PTA2 (io), 52 PTC3 (io), 53 PTB3 (io), 54 PTA3 (io), 55 VSSA (power), 56 VREFL (power), 57 VREFH (power), 58 VDDA (power), 59 PTA4 (io), 60 PTB4 (io), 61 PTC4 (io), 62 PTA5 (io), 63 PTB5 (io), 64 PTA6 (io)

## MC9S08DZ16xLC
designator *  value MC9S08DZ16xLC
ki_keywords: NXP S08 Microcontroller; ki_description: 8-bit Cost-Effective Microcontroller, S08 core, 16kB Flash, 1kB RAM, 512B EEPROM, LQFP-32; ki_fp_filters: LQFP*7x7mm*P0.8mm*; Footprint: Package_QFP:LQFP-32_7x7mm_P0.8mm; Supplier: http://cache.nxp.com/files/microcontrollers/doc/data_sheet/MC9S08DZ60.pdf
footprint LQFP-32_7x7mm_P0.8mm
pins: 1 PTA7 (io), 2 VDD (power), 3 VSS (power), 4 PTG0/EXTAL (io), 5 PTG1/XTAL (io), 6 ~{{RESET}} (in), 7 PTE0 (io), 8 PTE1 (io), 9 PTE2 (io), 10 PTE3 (io), 11 PTE4 (io), 12 PTE5 (io), 13 PTE6 (io), 14 PTE7 (io), 15 PTD0 (io), 16 PTD1 (io), 17 PTD2 (io), 18 PTD3 (io), 19 PTD4 (io), 20 PTD5 (io), 21 BKGD/MS (io), 22 PTB0 (io), 23 PTA0 (io), 24 PTB1 (io), 25 PTA1 (io), 26 PTA2 (io), 27 PTA3 (io), 28 VSSA/VREFL (power), 29 VDDA/VREFH (power), 30 PTA4 (io), 31 PTA5 (io), 32 PTA6 (io)

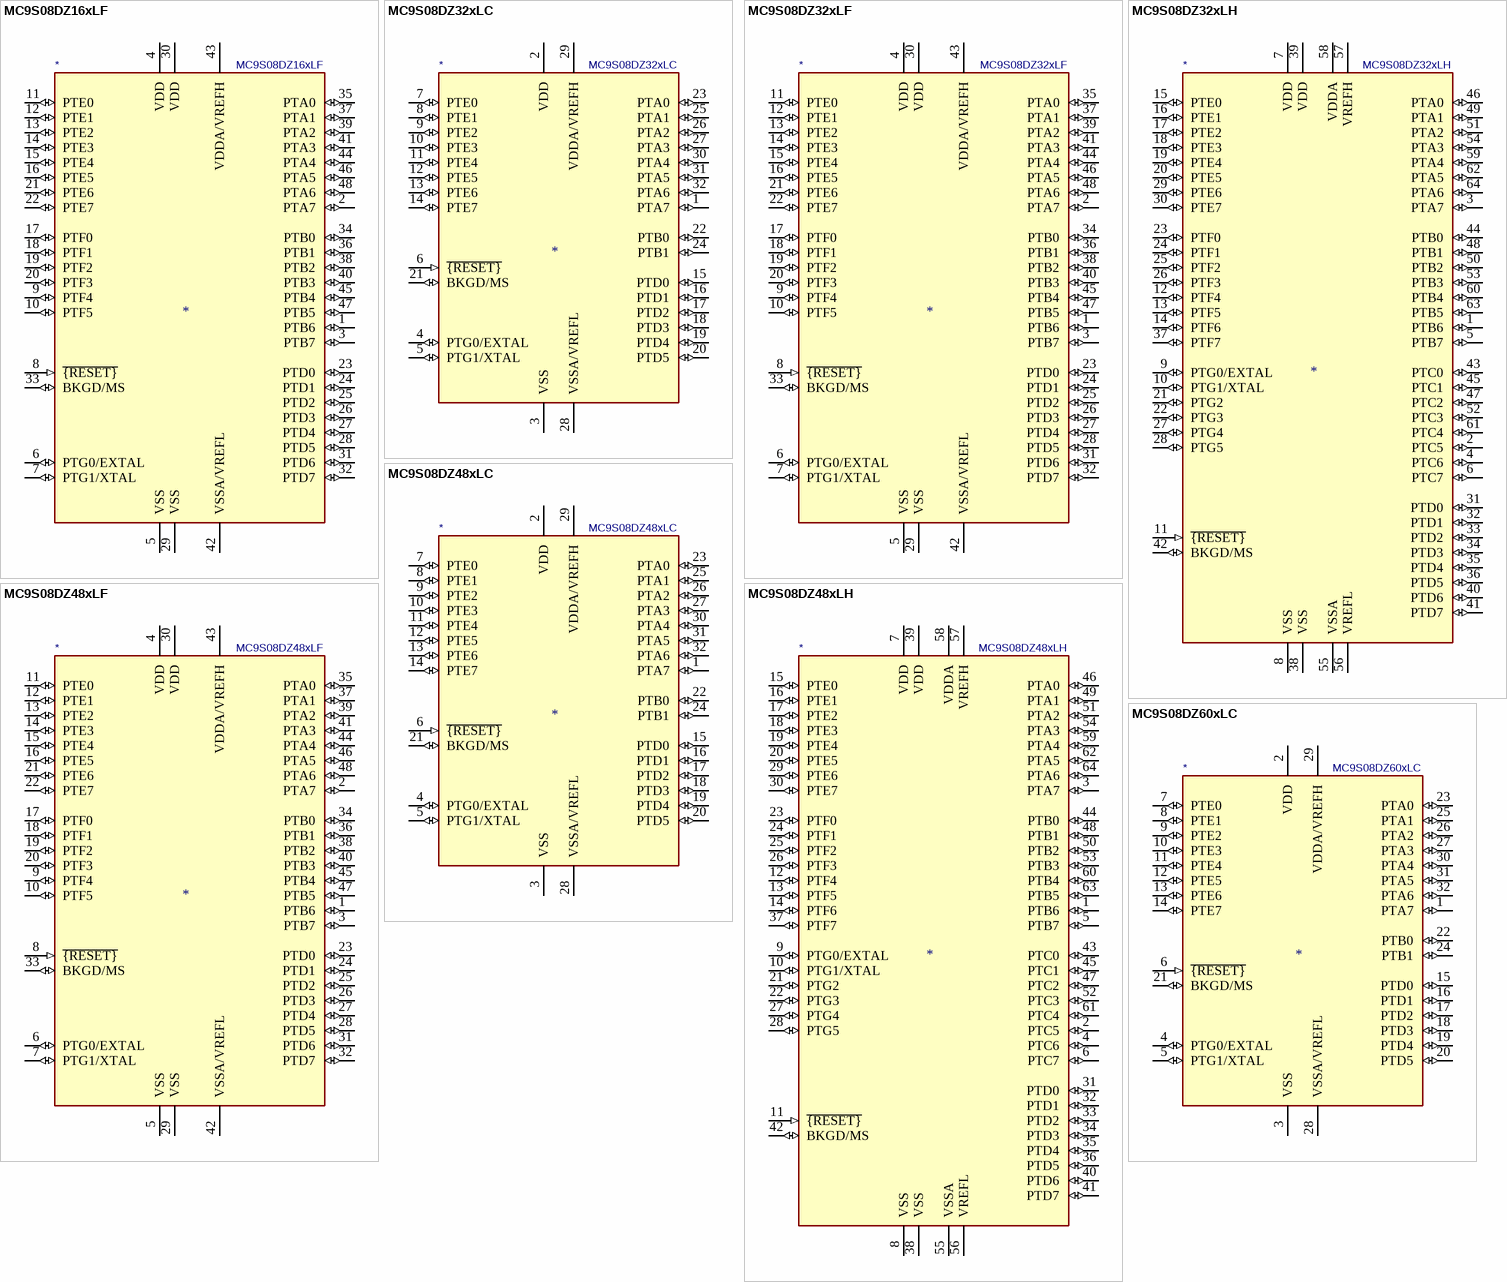
[diagram p9: symbols MC9S08DZ16xLF to MC9S08DZ60xLC]

## MC9S08DZ16xLF
designator *  value MC9S08DZ16xLF
ki_keywords: NXP S08 Microcontroller; ki_description: 8-bit Cost-Effective Microcontroller, S08 core, 16kB Flash, 1kB RAM, 512B EEPROM, LQFP-48; ki_fp_filters: LQFP*7x7mm*P0.5mm*; Footprint: Package_QFP:LQFP-48_7x7mm_P0.5mm; Supplier: http://cache.nxp.com/files/microcontrollers/doc/data_sheet/MC9S08DZ60.pdf
footprint LQFP-48_7x7mm_P0.5mm
pins: 1 PTB6 (io), 2 PTA7 (io), 3 PTB7 (io), 4 VDD (power), 5 VSS (power), 6 PTG0/EXTAL (io), 7 PTG1/XTAL (io), 8 ~{{RESET}} (in), 9 PTF4 (io), 10 PTF5 (io), 11 PTE0 (io), 12 PTE1 (io), 13 PTE2 (io), 14 PTE3 (io), 15 PTE4 (io), 16 PTE5 (io), 17 PTF0 (io), 18 PTF1 (io), 19 PTF2 (io), 20 PTF3 (io), 21 PTE6 (io), 22 PTE7 (io), 23 PTD0 (io), 24 PTD1 (io), 25 PTD2 (io), 26 PTD3 (io), 27 PTD4 (io), 28 PTD5 (io), 29 VSS (power), 30 VDD (power), 31 PTD6 (io), 32 PTD7 (io), 33 BKGD/MS (io), 34 PTB0 (io), 35 PTA0 (io), 36 PTB1 (io), 37 PTA1 (io), 38 PTB2 (io), 39 PTA2 (io), 40 PTB3 (io), 41 PTA3 (io), 42 VSSA/VREFL (power), 43 VDDA/VREFH (power), 44 PTA4 (io), 45 PTB4 (io), 46 PTA5 (io), 47 PTB5 (io), 48 PTA6 (io)

## MC9S08DZ32xLC
designator *  value MC9S08DZ32xLC
ki_keywords: NXP S08 Microcontroller; ki_description: 8-bit Cost-Effective Microcontroller, S08 core, 32kB Flash, 2kB RAM, 1kB EEPROM, LQFP-32; ki_fp_filters: LQFP*7x7mm*P0.8mm*; Footprint: Package_QFP:LQFP-32_7x7mm_P0.8mm; Supplier: http://cache.nxp.com/files/microcontrollers/doc/data_sheet/MC9S08DZ60.pdf
footprint LQFP-32_7x7mm_P0.8mm
pins: 1 PTA7 (io), 2 VDD (power), 3 VSS (power), 4 PTG0/EXTAL (io), 5 PTG1/XTAL (io), 6 ~{{RESET}} (in), 7 PTE0 (io), 8 PTE1 (io), 9 PTE2 (io), 10 PTE3 (io), 11 PTE4 (io), 12 PTE5 (io), 13 PTE6 (io), 14 PTE7 (io), 15 PTD0 (io), 16 PTD1 (io), 17 PTD2 (io), 18 PTD3 (io), 19 PTD4 (io), 20 PTD5 (io), 21 BKGD/MS (io), 22 PTB0 (io), 23 PTA0 (io), 24 PTB1 (io), 25 PTA1 (io), 26 PTA2 (io), 27 PTA3 (io), 28 VSSA/VREFL (power), 29 VDDA/VREFH (power), 30 PTA4 (io), 31 PTA5 (io), 32 PTA6 (io)

## MC9S08DZ32xLF
designator *  value MC9S08DZ32xLF
ki_keywords: NXP S08 Microcontroller; ki_description: 8-bit Cost-Effective Microcontroller, S08 core, 32kB Flash, 2kB RAM, 1kB EEPROM, LQFP-48; ki_fp_filters: LQFP*7x7mm*P0.5mm*; Footprint: Package_QFP:LQFP-48_7x7mm_P0.5mm; Supplier: http://cache.nxp.com/files/microcontrollers/doc/data_sheet/MC9S08DZ60.pdf
footprint LQFP-48_7x7mm_P0.5mm
pins: 1 PTB6 (io), 2 PTA7 (io), 3 PTB7 (io), 4 VDD (power), 5 VSS (power), 6 PTG0/EXTAL (io), 7 PTG1/XTAL (io), 8 ~{{RESET}} (in), 9 PTF4 (io), 10 PTF5 (io), 11 PTE0 (io), 12 PTE1 (io), 13 PTE2 (io), 14 PTE3 (io), 15 PTE4 (io), 16 PTE5 (io), 17 PTF0 (io), 18 PTF1 (io), 19 PTF2 (io), 20 PTF3 (io), 21 PTE6 (io), 22 PTE7 (io), 23 PTD0 (io), 24 PTD1 (io), 25 PTD2 (io), 26 PTD3 (io), 27 PTD4 (io), 28 PTD5 (io), 29 VSS (power), 30 VDD (power), 31 PTD6 (io), 32 PTD7 (io), 33 BKGD/MS (io), 34 PTB0 (io), 35 PTA0 (io), 36 PTB1 (io), 37 PTA1 (io), 38 PTB2 (io), 39 PTA2 (io), 40 PTB3 (io), 41 PTA3 (io), 42 VSSA/VREFL (power), 43 VDDA/VREFH (power), 44 PTA4 (io), 45 PTB4 (io), 46 PTA5 (io), 47 PTB5 (io), 48 PTA6 (io)

## MC9S08DZ32xLH
designator *  value MC9S08DZ32xLH
ki_keywords: NXP S08 Microcontroller; ki_description: 8-bit Cost-Effective Microcontroller, S08 core, 32kB Flash, 2kB RAM, 1kB EEPROM, LQFP-64; ki_fp_filters: LQFP*10x10mm*P0.5mm*; Footprint: Package_QFP:LQFP-64_10x10mm_P0.5mm; Supplier: http://cache.nxp.com/files/microcontrollers/doc/data_sheet/MC9S08DZ60.pdf
footprint LQFP-64_10x10mm_P0.5mm
pins: 1 PTB6 (io), 2 PTC5 (io), 3 PTA7 (io), 4 PTC6 (io), 5 PTB7 (io), 6 PTC7 (io), 7 VDD (power), 8 VSS (power), 9 PTG0/EXTAL (io), 10 PTG1/XTAL (io), 11 ~{{RESET}} (in), 12 PTF4 (io), 13 PTF5 (io), 14 PTF6 (io), 15 PTE0 (io), 16 PTE1 (io), 17 PTE2 (io), 18 PTE3 (io), 19 PTE4 (io), 20 PTE5 (io), 21 PTG2 (io), 22 PTG3 (io), 23 PTF0 (io), 24 PTF1 (io), 25 PTF2 (io), 26 PTF3 (io), 27 PTG4 (io), 28 PTG5 (io), 29 PTE6 (io), 30 PTE7 (io), 31 PTD0 (io), 32 PTD1 (io), 33 PTD2 (io), 34 PTD3 (io), 35 PTD4 (io), 36 PTD5 (io), 37 PTF7 (io), 38 VSS (power), 39 VDD (power), 40 PTD6 (io), 41 PTD7 (io), 42 BKGD/MS (io), 43 PTC0 (io), 44 PTB0 (io), 45 PTC1 (io), 46 PTA0 (io), 47 PTC2 (io), 48 PTB1 (io), 49 PTA1 (io), 50 PTB2 (io), 51 PTA2 (io), 52 PTC3 (io), 53 PTB3 (io), 54 PTA3 (io), 55 VSSA (power), 56 VREFL (power), 57 VREFH (power), 58 VDDA (power), 59 PTA4 (io), 60 PTB4 (io), 61 PTC4 (io), 62 PTA5 (io), 63 PTB5 (io), 64 PTA6 (io)

## MC9S08DZ48xLC
designator *  value MC9S08DZ48xLC
ki_keywords: NXP S08 Microcontroller; ki_description: 8-bit Cost-Effective Microcontroller, S08 core, 48kB Flash, 3kB RAM, 1.5kB EEPROM, LQFP-32; ki_fp_filters: LQFP*7x7mm*P0.8mm*; Footprint: Package_QFP:LQFP-32_7x7mm_P0.8mm; Supplier: http://cache.nxp.com/files/microcontrollers/doc/data_sheet/MC9S08DZ60.pdf
footprint LQFP-32_7x7mm_P0.8mm
pins: 1 PTA7 (io), 2 VDD (power), 3 VSS (power), 4 PTG0/EXTAL (io), 5 PTG1/XTAL (io), 6 ~{{RESET}} (in), 7 PTE0 (io), 8 PTE1 (io), 9 PTE2 (io), 10 PTE3 (io), 11 PTE4 (io), 12 PTE5 (io), 13 PTE6 (io), 14 PTE7 (io), 15 PTD0 (io), 16 PTD1 (io), 17 PTD2 (io), 18 PTD3 (io), 19 PTD4 (io), 20 PTD5 (io), 21 BKGD/MS (io), 22 PTB0 (io), 23 PTA0 (io), 24 PTB1 (io), 25 PTA1 (io), 26 PTA2 (io), 27 PTA3 (io), 28 VSSA/VREFL (power), 29 VDDA/VREFH (power), 30 PTA4 (io), 31 PTA5 (io), 32 PTA6 (io)

## MC9S08DZ48xLF
designator *  value MC9S08DZ48xLF
ki_keywords: NXP S08 Microcontroller; ki_description: 8-bit Cost-Effective Microcontroller, S08 core, 48kB Flash, 3kB RAM, 1.5kB EEPROM, LQFP-48; ki_fp_filters: LQFP*7x7mm*P0.5mm*; Footprint: Package_QFP:LQFP-48_7x7mm_P0.5mm; Supplier: http://cache.nxp.com/files/microcontrollers/doc/data_sheet/MC9S08DZ60.pdf
footprint LQFP-48_7x7mm_P0.5mm
pins: 1 PTB6 (io), 2 PTA7 (io), 3 PTB7 (io), 4 VDD (power), 5 VSS (power), 6 PTG0/EXTAL (io), 7 PTG1/XTAL (io), 8 ~{{RESET}} (in), 9 PTF4 (io), 10 PTF5 (io), 11 PTE0 (io), 12 PTE1 (io), 13 PTE2 (io), 14 PTE3 (io), 15 PTE4 (io), 16 PTE5 (io), 17 PTF0 (io), 18 PTF1 (io), 19 PTF2 (io), 20 PTF3 (io), 21 PTE6 (io), 22 PTE7 (io), 23 PTD0 (io), 24 PTD1 (io), 25 PTD2 (io), 26 PTD3 (io), 27 PTD4 (io), 28 PTD5 (io), 29 VSS (power), 30 VDD (power), 31 PTD6 (io), 32 PTD7 (io), 33 BKGD/MS (io), 34 PTB0 (io), 35 PTA0 (io), 36 PTB1 (io), 37 PTA1 (io), 38 PTB2 (io), 39 PTA2 (io), 40 PTB3 (io), 41 PTA3 (io), 42 VSSA/VREFL (power), 43 VDDA/VREFH (power), 44 PTA4 (io), 45 PTB4 (io), 46 PTA5 (io), 47 PTB5 (io), 48 PTA6 (io)

## MC9S08DZ48xLH
designator *  value MC9S08DZ48xLH
ki_keywords: NXP S08 Microcontroller; ki_description: 8-bit Cost-Effective Microcontroller, S08 core, 48kB Flash, 3kB RAM, 1.5kB EEPROM, LQFP-64; ki_fp_filters: LQFP*10x10mm*P0.5mm*; Footprint: Package_QFP:LQFP-64_10x10mm_P0.5mm; Supplier: http://cache.nxp.com/files/microcontrollers/doc/data_sheet/MC9S08DZ60.pdf
footprint LQFP-64_10x10mm_P0.5mm
pins: 1 PTB6 (io), 2 PTC5 (io), 3 PTA7 (io), 4 PTC6 (io), 5 PTB7 (io), 6 PTC7 (io), 7 VDD (power), 8 VSS (power), 9 PTG0/EXTAL (io), 10 PTG1/XTAL (io), 11 ~{{RESET}} (in), 12 PTF4 (io), 13 PTF5 (io), 14 PTF6 (io), 15 PTE0 (io), 16 PTE1 (io), 17 PTE2 (io), 18 PTE3 (io), 19 PTE4 (io), 20 PTE5 (io), 21 PTG2 (io), 22 PTG3 (io), 23 PTF0 (io), 24 PTF1 (io), 25 PTF2 (io), 26 PTF3 (io), 27 PTG4 (io), 28 PTG5 (io), 29 PTE6 (io), 30 PTE7 (io), 31 PTD0 (io), 32 PTD1 (io), 33 PTD2 (io), 34 PTD3 (io), 35 PTD4 (io), 36 PTD5 (io), 37 PTF7 (io), 38 VSS (power), 39 VDD (power), 40 PTD6 (io), 41 PTD7 (io), 42 BKGD/MS (io), 43 PTC0 (io), 44 PTB0 (io), 45 PTC1 (io), 46 PTA0 (io), 47 PTC2 (io), 48 PTB1 (io), 49 PTA1 (io), 50 PTB2 (io), 51 PTA2 (io), 52 PTC3 (io), 53 PTB3 (io), 54 PTA3 (io), 55 VSSA (power), 56 VREFL (power), 57 VREFH (power), 58 VDDA (power), 59 PTA4 (io), 60 PTB4 (io), 61 PTC4 (io), 62 PTA5 (io), 63 PTB5 (io), 64 PTA6 (io)

## MC9S08DZ60xLC
designator *  value MC9S08DZ60xLC
ki_keywords: NXP S08 Microcontroller; ki_description: 8-bit Cost-Effective Microcontroller, S08 core, 60kB Flash, 4kB RAM, 2kB EEPROM, LQFP-32; ki_fp_filters: LQFP*7x7mm*P0.8mm*; Footprint: Package_QFP:LQFP-32_7x7mm_P0.8mm; Supplier: http://cache.nxp.com/files/microcontrollers/doc/data_sheet/MC9S08DZ60.pdf
footprint LQFP-32_7x7mm_P0.8mm
pins: 1 PTA7 (io), 2 VDD (power), 3 VSS (power), 4 PTG0/EXTAL (io), 5 PTG1/XTAL (io), 6 ~{{RESET}} (in), 7 PTE0 (io), 8 PTE1 (io), 9 PTE2 (io), 10 PTE3 (io), 11 PTE4 (io), 12 PTE5 (io), 13 PTE6 (io), 14 PTE7 (io), 15 PTD0 (io), 16 PTD1 (io), 17 PTD2 (io), 18 PTD3 (io), 19 PTD4 (io), 20 PTD5 (io), 21 BKGD/MS (io), 22 PTB0 (io), 23 PTA0 (io), 24 PTB1 (io), 25 PTA1 (io), 26 PTA2 (io), 27 PTA3 (io), 28 VSSA/VREFL (power), 29 VDDA/VREFH (power), 30 PTA4 (io), 31 PTA5 (io), 32 PTA6 (io)

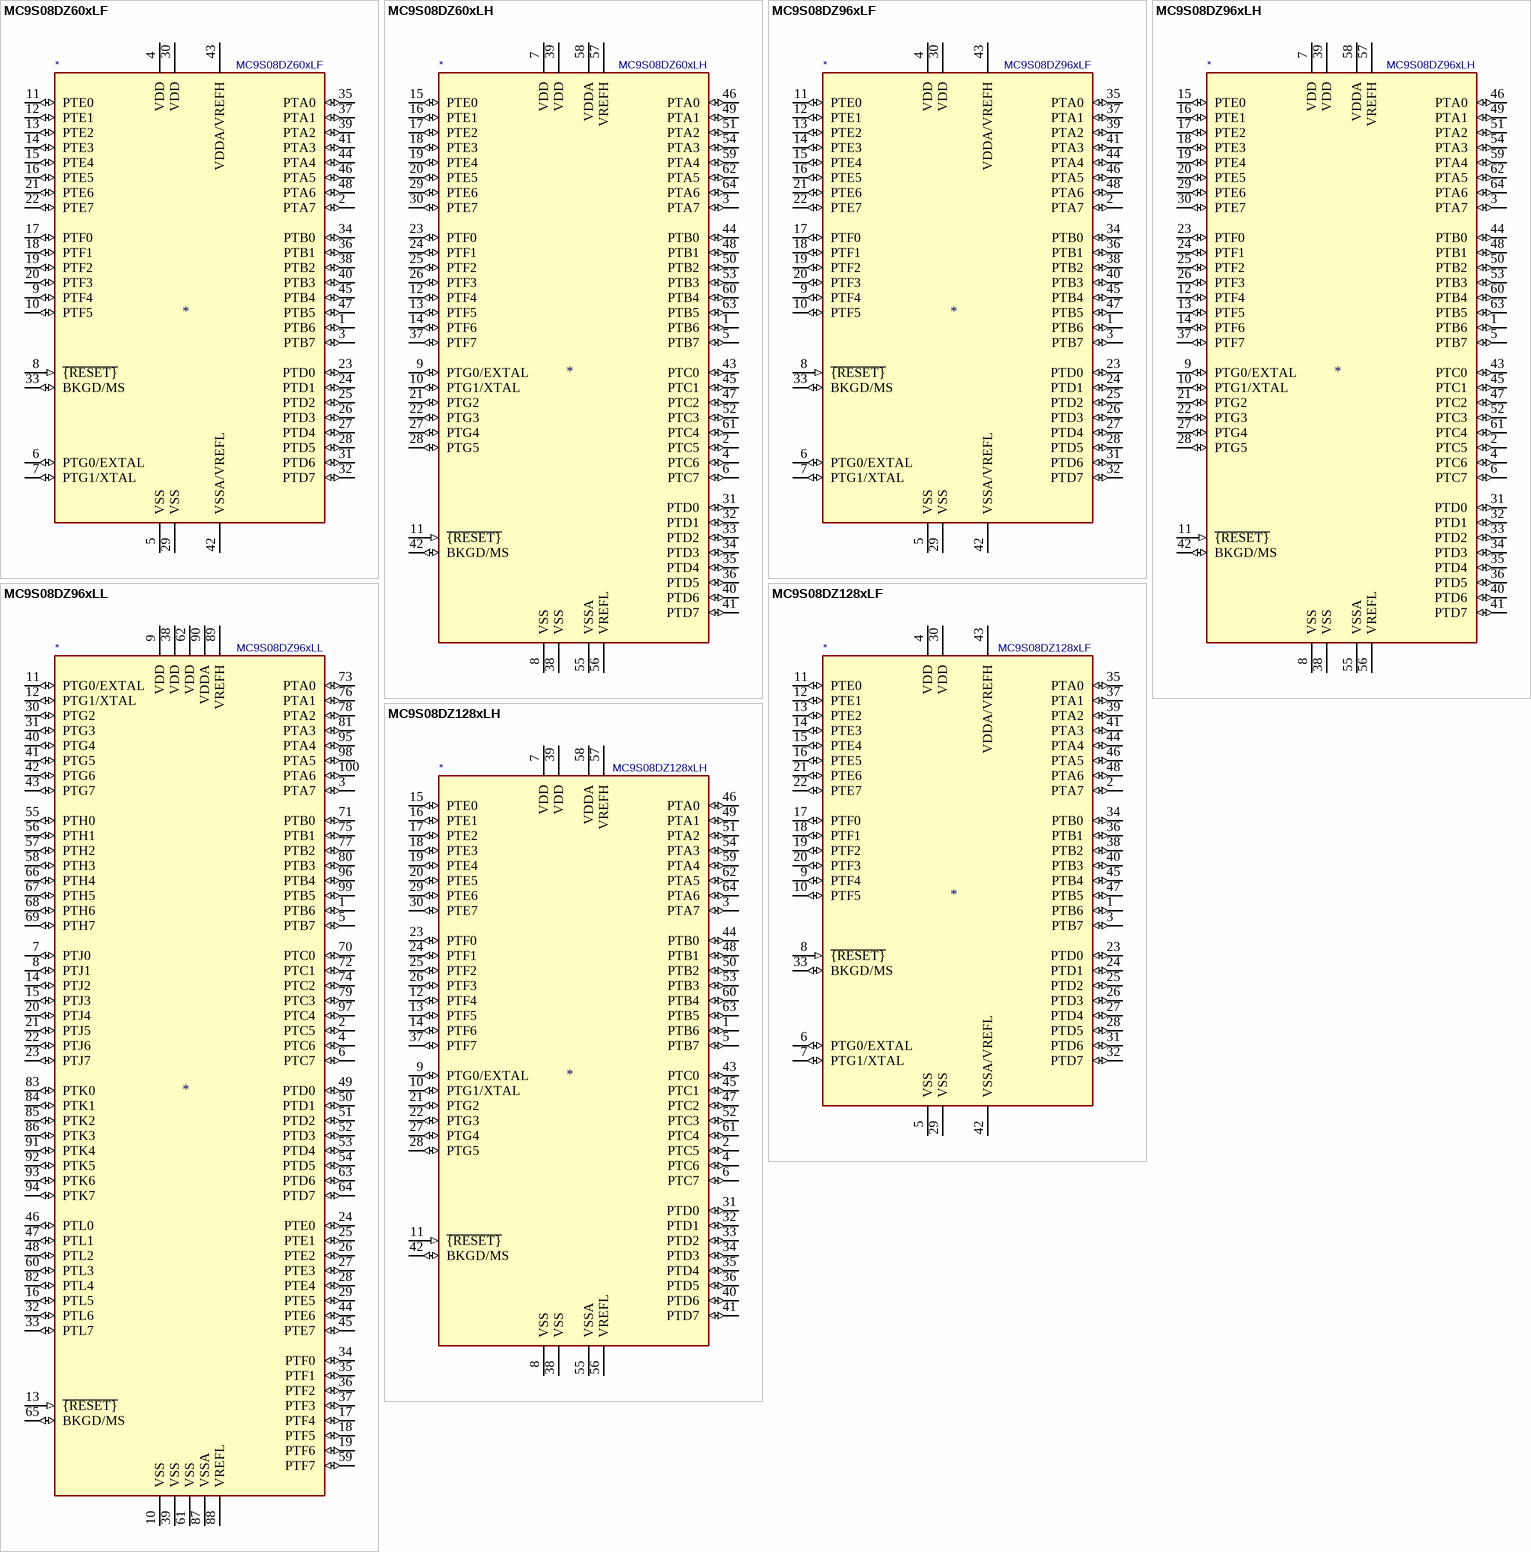
[diagram p10: symbols MC9S08DZ60xLF to MC9S08DZ128xLH]

## MC9S08DZ60xLF
designator *  value MC9S08DZ60xLF
ki_keywords: NXP S08 Microcontroller; ki_description: 8-bit Cost-Effective Microcontroller, S08 core, 60kB Flash, 4kB RAM, 2kB EEPROM, LQFP-48; ki_fp_filters: LQFP*7x7mm*P0.5mm*; Footprint: Package_QFP:LQFP-48_7x7mm_P0.5mm; Supplier: http://cache.nxp.com/files/microcontrollers/doc/data_sheet/MC9S08DZ60.pdf
footprint LQFP-48_7x7mm_P0.5mm
pins: 1 PTB6 (io), 2 PTA7 (io), 3 PTB7 (io), 4 VDD (power), 5 VSS (power), 6 PTG0/EXTAL (io), 7 PTG1/XTAL (io), 8 ~{{RESET}} (in), 9 PTF4 (io), 10 PTF5 (io), 11 PTE0 (io), 12 PTE1 (io), 13 PTE2 (io), 14 PTE3 (io), 15 PTE4 (io), 16 PTE5 (io), 17 PTF0 (io), 18 PTF1 (io), 19 PTF2 (io), 20 PTF3 (io), 21 PTE6 (io), 22 PTE7 (io), 23 PTD0 (io), 24 PTD1 (io), 25 PTD2 (io), 26 PTD3 (io), 27 PTD4 (io), 28 PTD5 (io), 29 VSS (power), 30 VDD (power), 31 PTD6 (io), 32 PTD7 (io), 33 BKGD/MS (io), 34 PTB0 (io), 35 PTA0 (io), 36 PTB1 (io), 37 PTA1 (io), 38 PTB2 (io), 39 PTA2 (io), 40 PTB3 (io), 41 PTA3 (io), 42 VSSA/VREFL (power), 43 VDDA/VREFH (power), 44 PTA4 (io), 45 PTB4 (io), 46 PTA5 (io), 47 PTB5 (io), 48 PTA6 (io)

## MC9S08DZ60xLH
designator *  value MC9S08DZ60xLH
ki_keywords: NXP S08 Microcontroller; ki_description: 8-bit Cost-Effective Microcontroller, S08 core, 60kB Flash, 4kB RAM, 2kB EEPROM, LQFP-64; ki_fp_filters: LQFP*10x10mm*P0.5mm*; Footprint: Package_QFP:LQFP-64_10x10mm_P0.5mm; Supplier: http://cache.nxp.com/files/microcontrollers/doc/data_sheet/MC9S08DZ60.pdf
footprint LQFP-64_10x10mm_P0.5mm
pins: 1 PTB6 (io), 2 PTC5 (io), 3 PTA7 (io), 4 PTC6 (io), 5 PTB7 (io), 6 PTC7 (io), 7 VDD (power), 8 VSS (power), 9 PTG0/EXTAL (io), 10 PTG1/XTAL (io), 11 ~{{RESET}} (in), 12 PTF4 (io), 13 PTF5 (io), 14 PTF6 (io), 15 PTE0 (io), 16 PTE1 (io), 17 PTE2 (io), 18 PTE3 (io), 19 PTE4 (io), 20 PTE5 (io), 21 PTG2 (io), 22 PTG3 (io), 23 PTF0 (io), 24 PTF1 (io), 25 PTF2 (io), 26 PTF3 (io), 27 PTG4 (io), 28 PTG5 (io), 29 PTE6 (io), 30 PTE7 (io), 31 PTD0 (io), 32 PTD1 (io), 33 PTD2 (io), 34 PTD3 (io), 35 PTD4 (io), 36 PTD5 (io), 37 PTF7 (io), 38 VSS (power), 39 VDD (power), 40 PTD6 (io), 41 PTD7 (io), 42 BKGD/MS (io), 43 PTC0 (io), 44 PTB0 (io), 45 PTC1 (io), 46 PTA0 (io), 47 PTC2 (io), 48 PTB1 (io), 49 PTA1 (io), 50 PTB2 (io), 51 PTA2 (io), 52 PTC3 (io), 53 PTB3 (io), 54 PTA3 (io), 55 VSSA (power), 56 VREFL (power), 57 VREFH (power), 58 VDDA (power), 59 PTA4 (io), 60 PTB4 (io), 61 PTC4 (io), 62 PTA5 (io), 63 PTB5 (io), 64 PTA6 (io)

## MC9S08DZ96xLF
designator *  value MC9S08DZ96xLF
ki_keywords: NXP S08 Microcontroller; ki_description: 8-bit Cost-Effective Microcontroller, S08 core, 96kB Flash, 6kB RAM, 2kB EEPROM, LQFP-48; ki_fp_filters: LQFP*7x7mm*P0.5mm*; Footprint: Package_QFP:LQFP-48_7x7mm_P0.5mm; Supplier: http://cache.nxp.com/files/microcontrollers/doc/data_sheet/MC9S08DZ128.pdf
footprint LQFP-48_7x7mm_P0.5mm
pins: 1 PTB6 (io), 2 PTA7 (io), 3 PTB7 (io), 4 VDD (power), 5 VSS (power), 6 PTG0/EXTAL (io), 7 PTG1/XTAL (io), 8 ~{{RESET}} (in), 9 PTF4 (io), 10 PTF5 (io), 11 PTE0 (io), 12 PTE1 (io), 13 PTE2 (io), 14 PTE3 (io), 15 PTE4 (io), 16 PTE5 (io), 17 PTF0 (io), 18 PTF1 (io), 19 PTF2 (io), 20 PTF3 (io), 21 PTE6 (io), 22 PTE7 (io), 23 PTD0 (io), 24 PTD1 (io), 25 PTD2 (io), 26 PTD3 (io), 27 PTD4 (io), 28 PTD5 (io), 29 VSS (power), 30 VDD (power), 31 PTD6 (io), 32 PTD7 (io), 33 BKGD/MS (io), 34 PTB0 (io), 35 PTA0 (io), 36 PTB1 (io), 37 PTA1 (io), 38 PTB2 (io), 39 PTA2 (io), 40 PTB3 (io), 41 PTA3 (io), 42 VSSA/VREFL (power), 43 VDDA/VREFH (power), 44 PTA4 (io), 45 PTB4 (io), 46 PTA5 (io), 47 PTB5 (io), 48 PTA6 (io)

## MC9S08DZ96xLH
designator *  value MC9S08DZ96xLH
ki_keywords: NXP S08 Microcontroller; ki_description: 8-bit Cost-Effective Microcontroller, S08 core, 96kB Flash, 6kB RAM, 2kB EEPROM, LQFP-64; ki_fp_filters: LQFP*10x10mm*P0.5mm*; Footprint: Package_QFP:LQFP-64_10x10mm_P0.5mm; Supplier: http://cache.nxp.com/files/microcontrollers/doc/data_sheet/MC9S08DZ128.pdf
footprint LQFP-64_10x10mm_P0.5mm
pins: 1 PTB6 (io), 2 PTC5 (io), 3 PTA7 (io), 4 PTC6 (io), 5 PTB7 (io), 6 PTC7 (io), 7 VDD (power), 8 VSS (power), 9 PTG0/EXTAL (io), 10 PTG1/XTAL (io), 11 ~{{RESET}} (in), 12 PTF4 (io), 13 PTF5 (io), 14 PTF6 (io), 15 PTE0 (io), 16 PTE1 (io), 17 PTE2 (io), 18 PTE3 (io), 19 PTE4 (io), 20 PTE5 (io), 21 PTG2 (io), 22 PTG3 (io), 23 PTF0 (io), 24 PTF1 (io), 25 PTF2 (io), 26 PTF3 (io), 27 PTG4 (io), 28 PTG5 (io), 29 PTE6 (io), 30 PTE7 (io), 31 PTD0 (io), 32 PTD1 (io), 33 PTD2 (io), 34 PTD3 (io), 35 PTD4 (io), 36 PTD5 (io), 37 PTF7 (io), 38 VSS (power), 39 VDD (power), 40 PTD6 (io), 41 PTD7 (io), 42 BKGD/MS (io), 43 PTC0 (io), 44 PTB0 (io), 45 PTC1 (io), 46 PTA0 (io), 47 PTC2 (io), 48 PTB1 (io), 49 PTA1 (io), 50 PTB2 (io), 51 PTA2 (io), 52 PTC3 (io), 53 PTB3 (io), 54 PTA3 (io), 55 VSSA (power), 56 VREFL (power), 57 VREFH (power), 58 VDDA (power), 59 PTA4 (io), 60 PTB4 (io), 61 PTC4 (io), 62 PTA5 (io), 63 PTB5 (io), 64 PTA6 (io)

## MC9S08DZ96xLL
designator *  value MC9S08DZ96xLL
ki_keywords: NXP S08 Microcontroller; ki_description: 8-bit Cost-Effective Microcontroller, S08 core, 96kB Flash, 6kB RAM, 2kB EEPROM, LQFP-100; ki_fp_filters: LQFP*14x14mm*P0.5mm*; Footprint: Package_QFP:LQFP-100_14x14mm_P0.5mm; Supplier: http://cache.nxp.com/files/microcontrollers/doc/data_sheet/MC9S08DZ128.pdf
footprint LQFP-100_14x14mm_P0.5mm
pins: 1 PTB6 (io), 2 PTC5 (io), 3 PTA7 (io), 4 PTC6 (io), 5 PTB7 (io), 6 PTC7 (io), 7 PTJ0 (io), 8 PTJ1 (io), 9 VDD (power), 10 VSS (power), 11 PTG0/EXTAL (io), 12 PTG1/XTAL (io), 13 ~{{RESET}} (in), 14 PTJ2 (io), 15 PTJ3 (io), 16 PTL5 (io), 17 PTF4 (io), 18 PTF5 (io), 19 PTF6 (io), 20 PTJ4 (io), 21 PTJ5 (io), 22 PTJ6 (io), 23 PTJ7 (io), 24 PTE0 (io), 25 PTE1 (io), 26 PTE2 (io), 27 PTE3 (io), 28 PTE4 (io), 29 PTE5 (io), 30 PTG2 (io), 31 PTG3 (io), 32 PTL6 (io), 33 PTL7 (io), 34 PTF0 (io), 35 PTF1 (io), 36 PTF2 (io), 37 PTF3 (io), 38 VDD (power), 39 VSS (power), 40 PTG4 (io), 41 PTG5 (io), 42 PTG6 (io), 43 PTG7 (io), 44 PTE6 (io), 45 PTE7 (io), 46 PTL0 (io), 47 PTL1 (io), 48 PTL2 (io), 49 PTD0 (io), 50 PTD1 (io), 51 PTD2 (io), 52 PTD3 (io), 53 PTD4 (io), 54 PTD5 (io), 55 PTH0 (io), 56 PTH1 (io), 57 PTH2 (io), 58 PTH3 (io), 59 PTF7 (io), 60 PTL3 (io), 61 VSS (power), 62 VDD (power), 63 PTD6 (io), 64 PTD7 (io), 65 BKGD/MS (io), 66 PTH4 (io), 67 PTH5 (io), 68 PTH6 (io), 69 PTH7 (io), 70 PTC0 (io), 71 PTB0 (io), 72 PTC1 (io), 73 PTA0 (io), 74 PTC2 (io), 75 PTB1 (io), 76 PTA1 (io), 77 PTB2 (io), 78 PTA2 (io), 79 PTC3 (io), 80 PTB3 (io), 81 PTA3 (io), 82 PTL4 (io), 83 PTK0 (io), 84 PTK1 (io), 85 PTK2 (io), 86 PTK3 (io), 87 VSSA (power), 88 VREFL (power), 89 VREFH (power), 90 VDDA (power), 91 PTK4 (io), 92 PTK5 (io), 93 PTK6 (io), 94 PTK7 (io), 95 PTA4 (io), 96 PTB4 (io), 97 PTC4 (io), 98 PTA5 (io), 99 PTB5 (io), 100 PTA6 (io)

## MC9S08DZ128xLF
designator *  value MC9S08DZ128xLF
ki_keywords: NXP S08 Microcontroller; ki_description: 8-bit Cost-Effective Microcontroller, S08 core, 128kB Flash, 8kB RAM, 2kB EEPROM, LQFP-48; ki_fp_filters: LQFP*7x7mm*P0.5mm*; Footprint: Package_QFP:LQFP-48_7x7mm_P0.5mm; Supplier: http://cache.nxp.com/files/microcontrollers/doc/data_sheet/MC9S08DZ128.pdf
footprint LQFP-48_7x7mm_P0.5mm
pins: 1 PTB6 (io), 2 PTA7 (io), 3 PTB7 (io), 4 VDD (power), 5 VSS (power), 6 PTG0/EXTAL (io), 7 PTG1/XTAL (io), 8 ~{{RESET}} (in), 9 PTF4 (io), 10 PTF5 (io), 11 PTE0 (io), 12 PTE1 (io), 13 PTE2 (io), 14 PTE3 (io), 15 PTE4 (io), 16 PTE5 (io), 17 PTF0 (io), 18 PTF1 (io), 19 PTF2 (io), 20 PTF3 (io), 21 PTE6 (io), 22 PTE7 (io), 23 PTD0 (io), 24 PTD1 (io), 25 PTD2 (io), 26 PTD3 (io), 27 PTD4 (io), 28 PTD5 (io), 29 VSS (power), 30 VDD (power), 31 PTD6 (io), 32 PTD7 (io), 33 BKGD/MS (io), 34 PTB0 (io), 35 PTA0 (io), 36 PTB1 (io), 37 PTA1 (io), 38 PTB2 (io), 39 PTA2 (io), 40 PTB3 (io), 41 PTA3 (io), 42 VSSA/VREFL (power), 43 VDDA/VREFH (power), 44 PTA4 (io), 45 PTB4 (io), 46 PTA5 (io), 47 PTB5 (io), 48 PTA6 (io)